# Altium schematic symbol library ICs_Control.SchLib: 37 symbols (part 2 of 6)
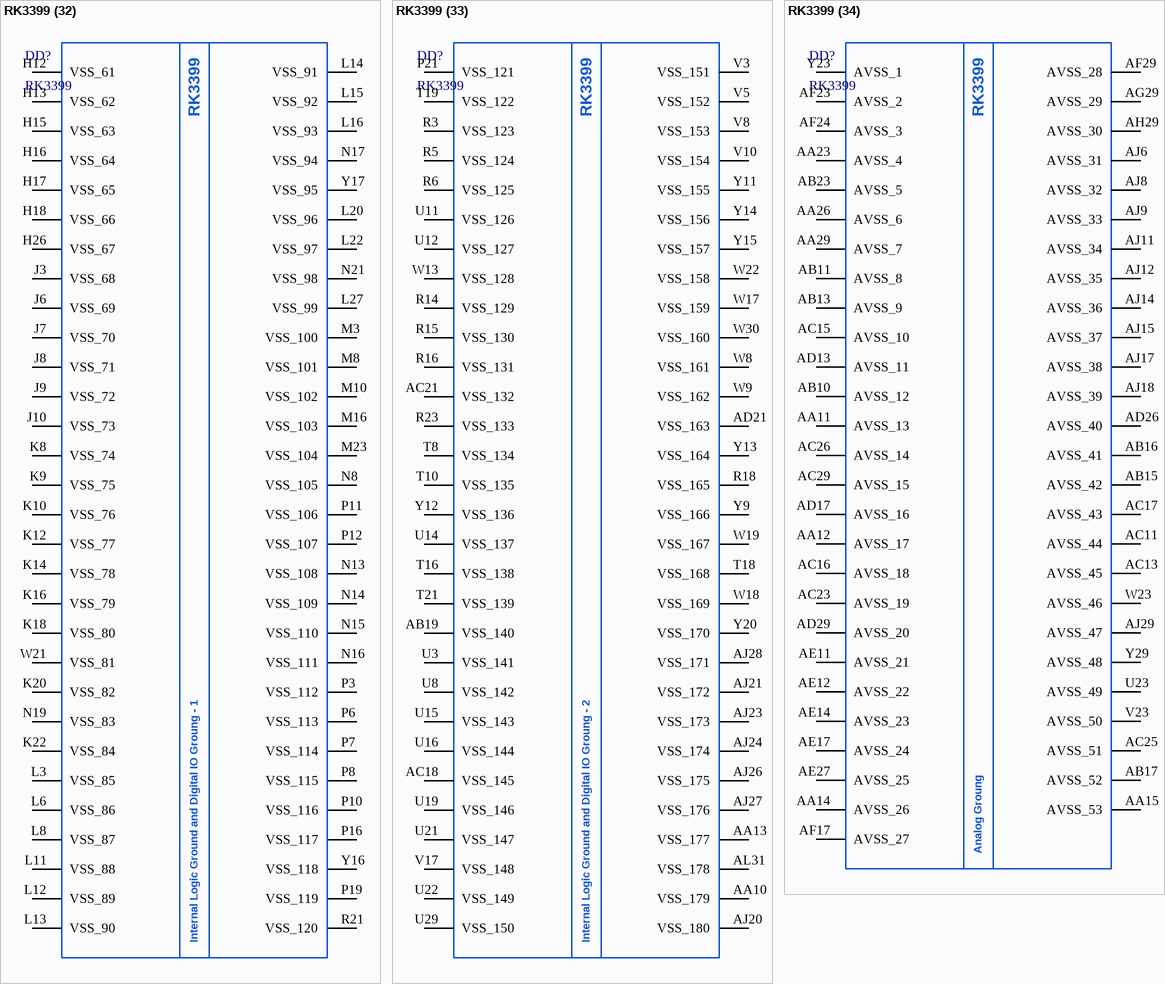
[diagram p78: symbol RK3399]

## RK3399
designator DD?
Quad Cortex A53 and Dual Cortex A72 Embedded CPU; Manufacturer: Rockchip; ItemType: IC; Package: FCBGA-828; PartNumber: RK3399; ItemSubType: CPU; Mounting: SMD
footprint FCBGA828_RK3399
part A pins: P20 LITCPU_VDD_1 (power), P22 LITCPU_VDD_4 (power), R19 LITCPU_VDD_2 (power), R20 LITCPU_VDD_3 (power), R22 LITCPU_VDD_7 (power), T20 LITCPU_VDD_6 (power), T22 LITCPU_VDD_5 (power)
part B pins: K19 BIGCPU_VDD_12 (power), K21 BIGCPU_VDD_13 (power), L18 BIGCPU_VDD_8 (power), L19 BIGCPU_VDD_1 (power), L21 BIGCPU_VDD_2 (power), L23 BIGCPU_VDD_11 (power), M18 BIGCPU_VDD_3 (power), M19 BIGCPU_VDD_4 (power), M20 BIGCPU_VDD_5 (power), M21 BIGCPU_VDD_6 (power), M22 BIGCPU_VDD_7 (power), N18 BIGCPU_VDD_COM (power), N20 BIGCPU_VDD_10 (power), N22 BIGCPU_VDD_9 (power)
part C pins: R11 GPU_VDD_8 (power), R12 GPU_VDD_9 (power), R13 GPU_VDD_13 (power), T11 GPU_VDD_10 (power), T12 GPU_VDD_11 (power), T13 GPU_VDD_12 (power), T14 GPU_VDD_14 (power), T15 GPU_VDD_COM (power), U13 GPU_VDD_7 (power), V11 GPU_VDD_15 (power), V12 GPU_VDD_16 (power), V13 GPU_VDD_6 (power), V14 GPU_VDD_5 (power), V15 GPU_VDD_4 (power), V16 GPU_VDD_17 (power), W10 GPU_VDD_20 (power), W11 GPU_VDD_1 (power), W12 GPU_VDD_2 (power), W14 GPU_VDD_3 (power), W15 GPU_VDD_19 (power), W16 GPU_VDD_18 (power)
part D pins: L17 LOGIC_VDD_10 (power), M17 LOGIC_VDD_9 (power), T17 LOGIC_VDD_11 (power), U17 LOGIC_VDD_8 (power), U18 LOGIC_VDD_7 (power), U20 LOGIC_VDD_12 (power), V18 LOGIC_VDD_5 (power), V19 LOGIC_VDD_4 (power), V20 LOGIC_VDD_3 (power), V21 LOGIC_VDD_2 (power), V22 LOGIC_VDD_1 (power), W20 LOGIC_VDD_6 (power)
part E pins: M11 CENTERLOGIC_VDD_1 (power), M12 CENTERLOGIC_VDD_2 (power), M13 CENTERLOGIC_VDD_3 (power), M14 CENTERLOGIC_VDD_4 (power), M15 CENTERLOGIC_VDD_5 (power), N11 CENTERLOGIC_VDD_6 (power), N12 CENTERLOGIC_VDD_7 (power), P13 CENTERLOGIC_VDD_8 (power), P14 CENTERLOGIC_VDD_9 (power), P15 CENTERLOGIC_VDD_10 (power)
part F pins: AA1 DDR0_DQ3 (io), AA2 DDR0_DQ2 (io), AA4 DDR0_DQS0N (io), AB1 DDR0_DQ1 (io), AB2 DDR0_DQ0 (io), AC1 DDR0_DQ14 (io), AC2 DDR0_DQ15 (io), AC4 DDR0_DQS1P (io), AC5 DDR0_DM1 (out), AD1 DDR0_DQ13 (io), AD2 DDR0_DQ11 (io), AD4 DDR0_DQS1N (io), AE1 DDR0_DQ12 (io), AE2 DDR0_DQ9 (io), AF1 DDR0_DQ10 (io), AF2 DDR0_DQ8 (io), B1 DDR0_CSN1 (out), C1 DDR0_A12 (out), C2 DDR0_CSN3 (out), C3 DDR0_BA0 (out), D1 DDR0_A10 (out), D2 DDR0_A13 (out), D3 DDR0_A14 (out), E1 DDR0_CKE0 (out), E3 DDR0_A11 (out), F1 DDR0_A1 (out), F2 DDR0_A0 (out), F3 DDR0_RASN (out), F4 DDR0_BA1 (out), F5 DDR0_CKE1 (out), G1 DDR0_A2 (out), G2 DDR0_A3 (out), G6 DDR0_WEN (out), H1 DDR0_A5 (out), H2 DDR0_A4 (out), H4 DDR0_CLK0P (out), H5 DDR0_CLK1P (out), H6 DDR0_CASN (out), H7 DDR0_A15 (out), J1 DDR0_A6 (out), J2 DDR0_A7 (out), J4 DDR0_CLK0N (out), J5 DDR0_CLK1N (out), K1 DDR0_A9 (out), K2 DDR0_A8 (out), L1 DDR0_DQ29 (io), L2 DDR0_DQ31 (io), L4 DDR0_ODT0 (out), L5 DDR0_ODT1 (out), L7 DDR0_RESETN (out), M1 DDR0_DQ27 (io), M2 DDR0_DQ30 (io), M4 DDR0_BA2 (out), M5 DDR0_CSN2 (out), M6 DDR0_CSN0 (out), N1 DDR0_DQ26 (io), N2 DDR0_DQ28 (io), P1 DDR0_DQ24 (io), P2 DDR0_DQ25 (io), P4 DDR0_DQS3P (io), P5 DDR0_DM3 (out), R1 DDR0_DQ23 (io), R2 DDR0_DQ22 (io), R4 DDR0_DQS3N (io), R7 DDR0_PZQ (io), T1 DDR0_DQ20 (io), T2 DDR0_DQ21 (io), U1 DDR0_DQ18 (io), U2 DDR0_DQ19 (io), U4 DDR0_DQS2P (io), U5 DDR0_DM2 (out), U6 DDR0_ATB0 (out), U7 DDR0_ATB1 (out), V1 DDR0_DQ16 (io), V2 DDR0_DQ17 (io), V4 DDR0_DQS2N (io), V6 DDR0_PLL_TESTOUT_P (out), V7 DDR0_PLL_TESTOUT_N (out), W1 DDR0_DQ6 (io), W2 DDR0_DQ7 (io), Y1 DDR0_DQ5 (io), Y2 DDR0_DQ4 (io), Y4 DDR0_DQS0P (io), Y5 DDR0_DM0 (out)
part G pins: L9 DDR0_VDD_1 (power), L10 DDR0_VDD_2 (power), M7 DDR0_CLK_VDD (power), M9 DDR0_VDD_3 (power), N9 DDR0_VDD_4 (power), N10 DDR0_VDD_5 (power), P9 DDR0_VDD_6 (power), R8 DDR0PLL_AVDD_0V9 (power), R9 DDR0_VDD_7 (power), R10 DDR0_VDD_8 (power), T9 DDR0_VDD_9 (power), U9 DDR0_VDD_10 (power), U10 DDR0_VDD_11 (power), V9 DDR0_VDD_12 (power)
part H pins: A2 DDR1_CSN1 (out), A3 DDR1_A12 (out), A4 DDR1_A10 (out), A5 DDR1_CKE0 (out), A6 DDR1_A9 (out), A7 DDR1_A7 (out), A8 DDR1_A5 (out), A9 DDR1_A3 (out), A10 DDR1_A1 (out), A11 DDR1_DQ10 (io), A12 DDR1_DQ12 (io), A13 DDR1_DQ13 (io), A14 DDR1_DQ14 (io), A15 DDR1_DQ1 (io), A16 DDR1_DQ3 (io), A17 DDR1_DQ5 (io), A18 DDR1_DQ6 (io), A19 DDR1_DQ16 (io), A20 DDR1_DQ18 (io), A21 DDR1_DQ20 (io), A22 DDR1_DQ23 (io), A23 DDR1_DQ24 (io), A24 DDR1_DQ26 (io), A25 DDR1_DQ27 (io), A26 DDR1_DQ29 (io), B2 DDR1_BA0 (out), B3 DDR1_CSN3 (out), B4 DDR1_A13 (out), B6 DDR1_A8 (out), B7 DDR1_A6 (out), B8 DDR1_A4 (out), B9 DDR1_A2 (out), B10 DDR1_A0 (out), B11 DDR1_DQ8 (io), B12 DDR1_DQ9 (io), B13 DDR1_DQ11 (io), B14 DDR1_DQ15 (io), B15 DDR1_DQ0 (io), B16 DDR1_DQ2 (io), B17 DDR1_DQ4 (io), B18 DDR1_DQ7 (io), B19 DDR1_DQ17 (io), B20 DDR1_DQ19 (io), B21 DDR1_DQ21 (io), B22 DDR1_DQ22 (io), B23 DDR1_DQ25 (io), B24 DDR1_DQ28 (io), B25 DDR1_DQ30 (io), B26 DDR1_DQ31 (io), C4 DDR1_A14 (out), C5 DDR1_A11 (out), C6 DDR1_RASN (out), D6 DDR1_BA1 (out), D8 DDR1_CLK0N (out), D9 DDR1_CLK0P (out), D11 DDR1_ODT0 (out), D12 DDR1_BA2 (out), D14 DDR1_DQS1N (io), D15 DDR1_DQS1P (io), D17 DDR1_DQS0N (io), D18 DDR1_DQS0P (io), D20 DDR1_DQS2N (io), D21 DDR1_DQS2P (io), D23 DDR1_DQS3N (io), D24 DDR1_DQS3P (io), E6 DDR1_CKE1 (out), E8 DDR1_CLK1N (out), E9 DDR1_CLK1P (out), E11 DDR1_ODT1 (out), E14 DDR1_DM1 (out), E17 DDR1_DM0 (out), E20 DDR1_DM2 (out), E23 DDR1_DM3 (out), F7 DDR1_WEN (out), F9 DDR1_CASN (out), F11 DDR1_CSN2 (out), F12 DDR1_CSN0 (out), F14 DDR1_PLL_TESTOUT_P (out), F17 DDR1_ATB0 (out), G8 DDR1_A15 (out), G11 DDR1_RESETN (out), G14 DDR1_PLL_TESTOUT_N (out), G15 DDR1_PZQ (io), G17 DDR1_ATB1 (out)
part I pins: G12 DDR1_CLK_VDD (power), H14 DDR1PLL_AVDD_0V9 (power), J11 DDR1_VDD_1 (power), J12 DDR1_VDD_2 (power), J13 DDR1_VDD_3 (power), J14 DDR1_VDD_4 (power), J15 DDR1_VDD_5 (power), J16 DDR1_VDD_6 (power), J17 DDR1_VDD_7 (power), J18 DDR1_VDD_8 (power), K11 DDR1_VDD_9 (power), K13 DDR1_VDD_10 (power), K15 DDR1_VDD_11 (power), K17 DDR1_VDD_12 (power)
part J pins: AD23 EFUSE, P17 PLL_AVSS (power), P18 PLL_AVDD_1V8 (power), R17 PLL_AVDD_0V9 (power), T30 NPOR (in), Y30 XOUT_OSC (out), Y31 XIN_OSC (in)
part K pins: J25 EMMC_D3 (io), J26 EMMC_D4 (io), J27 EMMC_D5 (io), J28 EMMC_D0 (io), J29 EMMC_D1 (io), J30 EMMC_D2 (io), J31 EMMC_CMD (io), K24 EMMC_VDD_1V8 (power), K30 EMMC_D7 (io), K31 EMMC_STRB (io), L24 EMMC_COREDLL_0V9 (power), L28 EMMC_CLK (out), L29 EMMC_CALIO (io), L30 EMMC_TP (out), L31 EMMC_D6 (io)
part L pins: AA19 NC (hiz), AA20 NC (hiz), AA22 NC (hiz), AB20 NC (hiz), AB22 NC (hiz), AC12 NC (hiz), AC14 NC (hiz), AD11 NC (hiz), AD12 NC (hiz), AD14 NC (hiz), AD15 NC (hiz), AD24 USIC_AVDD_1V2 (power), AD25 USIC_AVDD_0V9 (power), AJ30 USIC_STROBE (io), AJ31 USIC_DATA (io)
part M pins: AA30 USB1_DP (io), AA31 USB1_DN (io), AB30 USB0_DP (io), AB31 USB0_DN (io), AC30 USB1_RBIAS (in), AC31 USB0_RBIAS (in), AE26 TYPEC1_ID (in), AG23 TYPEC0_DP (io), AG24 TYPEC1_DP (io), AH23 TYPEC0_DN (io), AH24 TYPEC1_DN (io), AK30 TYPEC0_U2VBUSDET (io), AK31 TYPEC1_U2VBUSDET (io), AL30 TYPEC0_ID (in), U24 USB_AVDD_1V8 (power), V24 USB_AVDD_0V9 (power), Y25 USB_AVDD_3V3 (power)
part N pins: AA18 TYPEC0_AVDD_1V8 (power), AB18 TYPEC0_AVDD_3V3 (power), AD18 TYPEC0_RCLKM (out), AD19 TYPEC0_U3VBUSDET (in), AE18 TYPEC0_RCLKP (out), AG17 TYPEC0_AUXM_PU_PD (io), AG18 TYPEC0_REXT (in), AG20 TYPEC0_REXT_CC (in), AH17 TYPEC0_AUXP_PD_PU (io), AH18 TYPEC0_CC1 (io), AH20 TYPEC0_CC2 (io), AK20 TYPEC0_AUXP (io), AK21 TYPEC0_RX1P (in), AK22 TYPEC0_TX1M (out), AK23 TYPEC0_RX2P (in), AK24 TYPEC0_TX2M (out), AL20 TYPEC0_AUXM (io), AL21 TYPEC0_RX1M (in), AL22 TYPEC0_TX1P (out), AL23 TYPEC0_RX2M (in), AL24 TYPEC0_TX2P (out), Y18 TYPEC0_AVDD_0V9_2 (power), Y19 TYPEC0_AVDD_0V9_1 (power)
part O pins: AA21 TYPEC1_AVDD_1V8 (power), AB21 TYPEC1_AVDD_3V3 (power), AC19 TYPEC1_U3VBUSDET (in), AD20 TYPEC1_RCLKM (out), AE20 TYPEC1_RCLKP (out), AE21 TYPEC1_REXT (in), AE24 TYPEC1_AUXP_PD_PU (io), AF21 TYPEC1_CC2 (io), AF25 TYPEC1_AUXM_PU_PD (io), AG21 TYPEC1_REXT_CC (in), AH21 TYPEC1_CC1 (io), AK25 TYPEC1_RX1P (in), AK26 TYPEC1_TX1M (out), AK27 TYPEC1_RX2P (in), AK28 TYPEC1_TX2M (out), AK29 TYPEC1_AUXP (io), AL25 TYPEC1_RX1M (in), AL26 TYPEC1_TX1P (out), AL27 TYPEC1_RX2M (in), AL28 TYPEC1_TX2P (out), AL29 TYPEC1_AUXM (io), Y21 TYPEC1_AVDD_0V9_1 (power), Y22 TYPEC1_AVDD_0V9_2 (power)
part P pins: AA16 HDMI_AVDD_0V9_1 (power), AA17 HDMI_AVDD_0V9_2 (power), AD16 HDMI_AVDD_1V8 (power), AE15 HDMI_HPD, AF15 HDMI_REXT, AK16 HDMI_TCP (out), AK17 HDMI_TX0P (out), AK18 HDMI_TX1P (out), AK19 HDMI_TX2P (out), AL16 HDMI_TCN (out), AL17 HDMI_TX0N (out), AL18 HDMI_TX1N (out), AL19 HDMI_TX2N (out)
part Q pins: A28 EDP_AUXN (io), A29 EDP_TX0N (out), A30 EDP_TX1N (out), B28 EDP_AUXP (io), B29 EDP_TX0P (out), B30 EDP_TX1P (out), B31 EDP_AVSS_1 (power), C28 EDP_AVSS_2 (power), C29 EDP_AVSS_3 (power), C30 EDP_TX2P (out), C31 EDP_TX2N (out), D29 EDP_AVSS_4 (power), D30 EDP_TX3P (out), D31 EDP_TX3N (out), G20 EDP_DC_TP (io), G21 EDP_REXT, H19 EDP_AVSS_5 (power), H20 EDP_AVDD_0V9 (power), H21 EDP_CLK24M_IN (in), J19 EDP_AVDD_1V8_1 (power), J20 EDP_AVDD_1V8_2 (power), J21 EDP_AVSS_6 (power)
part R pins: AA27 PCIE_TX2_P (out), AA28 PCIE_TX2_N (out), AC27 PCIE_RX2_P (in), AC28 PCIE_RX2_N (in), AD27 PCIE_TX3_P (out), AD28 PCIE_TX3_N (out), AD30 PCIE_RCLK_100M_N (out), AD31 PCIE_RCLK_100M_P (out), AE30 PCIE_TX0_P (out), AE31 PCIE_TX0_N (out), AF27 PCIE_RX3_P (in), AF28 PCIE_RX3_N (in), AF30 PCIE_RX0_P (in), AF31 PCIE_RX0_N (in), AG30 PCIE_TX1_P (out), AG31 PCIE_TX1_N (out), AH30 PCIE_RX1_P (in), AH31 PCIE_RX1_N (in), W24 PCIE_AVDD_0V9 (power), Y24 PCIE_AVDD_1V8 (power)
part S pins: AB12 MIPI_TX0_AVDD_1V8 (power), AF12 MIPI_TX0_REXT, AG9 MIPI_TX0_D3P (out), AG11 MIPI_TX0_D2P (out), AG12 MIPI_TX0_CLKP (out), AG14 MIPI_TX0_D1P (out), AG15 MIPI_TX0_D0P (out), AH9 MIPI_TX0_D3N (out), AH11 MIPI_TX0_D2N (out), AH12 MIPI_TX0_CLKN (out), AH14 MIPI_TX0_D1N (out), AH15 MIPI_TX0_D0N (out)
part T pins: AC10 MIPI_TX1/RX1_AVDD_1V8 (power), AF11 MIPI_TX1/RX1_REXT, AK6 MIPI_TX1/RX1_D0P (io), AK7 MIPI_TX1/RX1_D1P (io), AK8 MIPI_TX1/RX1_CLKP (io), AK9 MIPI_TX1/RX1_D2P (io), AK10 MIPI_TX1/RX1_D3P (io), AL6 MIPI_TX1/RX1_D0N (io), AL7 MIPI_TX1/RX1_D1N (io), AL8 MIPI_TX1/RX1_CLKN (io), AL9 MIPI_TX1/RX1_D2N (io), AL10 MIPI_TX1/RX1_D3N (io)
part U pins: AB14 MIPI_RX0_AVDD_1V8 (power), AF14 MIPI_RX0_REXT, AK11 MIPI_RX0_D3P (in), AK12 MIPI_RX0_D2P (in), AK13 MIPI_RX0_CLKP (in), AK14 MIPI_RX0_D1P (in), AK15 MIPI_RX0_D0P (in), AL11 MIPI_RX0_D3N (in), AL12 MIPI_RX0_D2N (in), AL13 MIPI_RX0_CLKN (in), AL14 MIPI_RX0_D1N (in), AL15 MIPI_RX0_D0N (in)
part V pins: AC24 ADC_AVDD (power), AG25 ADC_IN2 (in), AG26 ADC_IN0 (in), AG28 ADC_IN3 (in), AH26 ADC_IN1 (in), AH27 ADC_IN4 (in)
part W pins: T23 SDMMC0_VDD (power), U26 SDMMC0_VDDPST (out), U27 GPIO4_B3/SDMMC0_D3/APJTAG_TMS (io), V25 GPIO4_B5/SDMMC0_CMD/MCUJTAG_TMS (io), V29 GPIO4_B4/SDMMC0_CLKOUT/MUCJTAG_TCK (io), Y26 GPIO4_B1/SDMMC0_D1/UART2A_TX (io), Y27 GPIO4_B0/SDMMC0_D0/UART2A_RX (io), Y28 GPIO4_B2/SDMMC0_D2/APJTAG_TCK (io)
part X pins: AA25 GPIO0_A4/SDIO0_INTN (io), N24 GPIO0_A2/WIFI_26MHZ (io), P24 GPIO0_B5/TCPD_VBUS_FDIS/TCPD_VBUS_SOURCE3 (io), P25 GPIO0_A6/PWM3A_IR (io), R24 PMUIO1_VDD_1V8 (power), R29 GPIO0_A1/DDRIO_PWROFF/TCPD_CCDB_EN (io), T24 PMU_VDD_0V9 (power), U25 PMU_VDD_1V8 (power), U28 GPIO0_B0/SDMMC0_WRPT/TEST_CLKOUT2 (io), U30 GPIO0_B3 (io), U31 GPIO0_A0/TEST_CLKOUT0/CLK32K_IN (io), V26 GPIO0_B4/TCPD_VBUS_BDIS (io), V27 GPIO0_A5/EMMC_PWRON (io), V28 GPIO0_A7/SDMMC0_DET (io), V30 GPIO0_B1/PMUIO2_VOLSEL (io), V31 GPIO0_A3/SDIO0_WRPT (io), W31 GPIO0_B2 (io)
part Y pins: AA24 DFTJTAG_TMS (io), AB24 DFTJTAG_TRSTN (io), L25 GPIO1_C6/TCPD_VBUS_SOURCE0 (io), L26 GPIO1_D0/TCPD_VBUS_SOURCE2 (io), M24 GPIO1_B5 (io), M25 GPIO1_B6/PWM3B_IR (io), M26 GPIO1_B7/SPI3_RXD/I2C0_SDA (io), M27 GPIO1_C1/SPI3_CLK (io), M28 GPIO1_C3/PWM2 (io), M29 GPIO1_C4/I2C8_SDA (io), M30 GPIO1_C5/I2C8_SCL (io), M31 GPIO1_C7/TCPD_VBUS_SOURCE1 (io), N23 PMUIO2_VDDPST (power), N30 GPIO1_C0/SPI3_TXD/I2C0_SCL (io), N31 GPIO1_C2/SPI3_CSN0 (io), P23 PMUIO2_VDD (power), P26 GPIO1_A6/TSADC_INT (io), P27 GPIO1_A7/SPI1_RXD/UART4_RX (io), P28 GPIO1_B1/SPI1_CLK/PMCU_JTAG_TCK (io), P29 GPIO1_B2/SPI1_CSN0/PMCU_JTAG_TMS (io), P30 GPIO1_B4/I2C4_SCL (io), P31 GPIO1_B3/I2C4_SDA (io), R25 GPIO1_A0/ISP0_EN/ISP1_EN/TCPD_VBUS_SINK_EN (io), R26 GPIO1_A2/ISP0_TRIGIN/ISP1_TRIGIN/TCPD_CC1_EN (io), R27 GPIO1_A3/ISP0_TRIGOUT/ISP1_TRIGOUT (io), R28 GPIO1_A4/ISP0_PRELIGHT_TRIG/ISP1_PRELIGHT_TRIG (io), R30 GPIO1_A5/AP_PWROFF (io), R31 GPIO1_B0/SPI1_TXD/UART4_TX (io), T31 GPIO1_A1/ISP0_TRIG/ISP1_TRIG/TCPD_CC0_EN (io)
part Z pins: B27 GPIO3_B7/MAC_CRS/UART3_TX/CIF_CLKOUTB (io), C27 GPIO3_B1/MAC_RXDV (io), D26 GPIO3_A4/MAC_TXD0/SPI0_RXD (io), D27 GPIO3_C0/MAC_COL/UART3_CTSN/SPDIF_TX (io), E25 GPIO3_A3/MAC_RXD3/SPI4_CSN0 (io), E26 GPIO3_A6/MAC_RXD0/SPI0_CLK (io), E28 GPIO3_C1/MAC_TXCLK/UART3_RTSN (io), E29 GPIO3_B0/MAC_MDC/SPI0_CSN1 (io), E30 GPIO3_A2/MAC_RXD2/SPI4_CLK (io), F23 GPIO3_B2/MAC_RXER/I2C5_SDA (io), F24 GPIO3_A0/MAC_TXD2/SPI4_RXD (io), F25 GPIO3_B6/MAC_RXCLK/UART3_RX (io), F27 GPIO3_A7/MAC_RXD1/SPI0_CSN0 (io), G23 GPIO3_A5/MAC_TXD1/SPI0_TXD (io), G24 GPIO3_B3/MAC_CLK/I2C5_SCL (io), G26 GPIO3_B5/MAC_MDIO/UART1_TX (io), H22 GPIO3_B4/MAC_TXEN/UART1_RX (io), H23 GPIO3_A1/MAC_TXD3/SPI4_TXD (io), J22 APIO1_VDDPST (power), J23 APIO1_VDD (power)
part 27 pins: F28 GPIO2_A3/VOP_D3/CIF_D3 (io), F29 GPIO2_A5/VOP_D5/CIF_D5 (io), F30 GPIO2_B1/SPI2_RXD/CIF_HREF/I2C6_SDA (io), F31 GPIO2_B4/SPI2_CSN0 (io), G30 GPIO2_A7/VOP_D7/CIF_D7/I2C7_SDA (io), G31 GPIO2_A0/VOP_D0/CIF_D0/I2C2_SDA (io), H24 GPIO2_B2/SPI2_TXD/CIF_CLKIN/I2C6_SCL (io), H25 GPIO2_A1/VOP_D1/CIF_D1/I2C2_SCL (io), H27 GPIO2_A6/VOP_D6/CIF_D6 (io), H28 GPIO2_B0/VOP_CLK/CIF_VSYNC/I2C7_SCL (io), H29 GPIO2_A4/VOP_D4/CIF_D4 (io), H30 GPIO2_A2/VOP_D2/CIF_D2 (io), H31 GPIO2_B3/SPI2_CLK/VOP_DEN/CIF_CLKOUTA (io), J24 APIO2_VDDPST (power), K23 APIO2_VDD (power)
part 28 pins: AB8 APIO3_VDD_1V8 (power), AD8 GPIO2_C4/SDIO0_D0/SPI5_RXD (io), AD9 GPIO2_D3/SDIO0_PWREN (io), AE8 GPIO2_C7/SDIO0_D3/SPI5_CSN0 (io), AE9 GPIO2_C0/UART0_RX (io), AF7 GPIO2_D1/SDIO0_CLKOUT/TEST_CLKOUT1 (io), AF8 GPIO2_D4/SDIO0_BKPWR (io), AG7 GPIO2_C6/SDIO0_D2/SPI5_CLK (io), AG8 GPIO2_C2/UART0_CTSN (io), AH6 GPIO2_D0/SDIO0_CMD (io), AH8 GPIO2_C1/UART0_TX (io), AK5 GPIO2_C5/SDIO0_D1/SPI5_TXD (io), AL4 GPIO2_D2/SDIO0_DETN/PCIE_CLKREQN (io), AL5 GPIO2_C3/UART0_RTSN (io)
part 29 pins: AC8 APIO4_VDDPST (power), AC9 APIO4_VDD (power), AD7 GPIO4_C7/HDMI_CECINOUT/EDP_HOTPLUG (io), AE6 GPIO4_D0/PCIE_CLKREQNB (io), AF5 GPIO4_C2/PWM0/VOP0_PWM/VOP1_PWM (io), AG4 GPIO4_D6 (io), AG6 GPIO4_C0/I2C3_SDA/UART2B_RX (io), AH3 GPIO4_D2 (io), AH5 GPIO4_D4 (io), AJ3 GPIO4_D5 (io), AJ4 GPIO4_C4/UART2C_TX (io), AK1 GPIO4_C5/SPDIF_TX (io), AK2 GPIO4_C3/UART2C_RX (io), AK3 GPIO4_D3 (io), AK4 GPIO4_D1/DP_HOTPLUG (io), AL2 GPIO4_C1/I2C3_SCL/UART2B_TX (io), AL3 GPIO4_C6/PWM1 (io)
part 30 pins: AA6 GPIO3_D5/I2S0_SDI2SDO2 (io), AA7 GPIO4_A4/I2S1_LRCK_RX (io), AA8 APIO5_VDDPST (power), AC6 GPIO4_A7/I2S1_SDO0 (io), AC7 GPIO4_A0/I2S_CLK (io), AD6 GPIO4_A6/I2S1_SDI0 (io), AE5 GPIO3_D4/I2S0_SDI1SDO3 (io), AF3 GPIO4_A3/I2S1_SCLK (io), AF4 GPIO3_D1/I2S0_LRCK_RX (io), AG1 GPIO4_A1/I2C1_SDA (io), AG3 GPIO3_D0/I2S0_SCLK (io), AH1 GPIO3_D7/I2S0_SDO0 (io), AH2 GPIO3_D6/I2S0_SDI3SDO1 (io), AJ1 GPIO4_A5/I2S1_LRCK_TX (io), AJ2 GPIO3_D2/I2S0_LRCK_TX (io), Y6 GPIO4_A2/I2C1_SCL (io), Y7 GPIO3_D3/I2S0_SDI0 (io), Y8 APIO5_VDD (power)
part 31 pins: A1 VSS_1, A27 VSS_2, A31 VSS_3, AA3 VSS_4, AA5 VSS_5, AA9 VSS_6, AB9 VSS_9, AC3 VSS_16, AC20 VSS_13, AC22 VSS_12, AD3 VSS_17, AD5 VSS_18, AD10 VSS_19, AD22 VSS_11, AE23 VSS_14, AF9 VSS_20, AF18 VSS_7, AF20 VSS_10, AG2 VSS_21, AJ5 VSS_22, AL1 VSS_23, B5 VSS_24, C8 VSS_25, C9 VSS_26, C11 VSS_27, C12 VSS_28, C14 VSS_29, C15 VSS_30, C17 VSS_31, C18 VSS_32, C20 VSS_33, C21 VSS_34, C23 VSS_35, C24 VSS_36, C26 VSS_37, D5 VSS_38, E2 VSS_39, E4 VSS_40, E7 VSS_41, E12 VSS_42, E15 VSS_43, E18 VSS_44, E21 VSS_45, E24 VSS_46, E31 VSS_47, F8 VSS_48, F15 VSS_49, F18 VSS_50, F20 VSS_51, F21 VSS_52, G5 VSS_53, G9 VSS_54, G18 VSS_55, G27 VSS_56, H3 VSS_57, H9 VSS_58, H10 VSS_59, H11 VSS_60, Y3 VSS_8, Y10 VSS_15
part 32 pins: H12 VSS_61, H13 VSS_62, H15 VSS_63, H16 VSS_64, H17 VSS_65, H18 VSS_66, H26 VSS_67, J3 VSS_68, J6 VSS_69, J7 VSS_70, J8 VSS_71, J9 VSS_72, J10 VSS_73, K8 VSS_74, K9 VSS_75, K10 VSS_76, K12 VSS_77, K14 VSS_78, K16 VSS_79, K18 VSS_80, K20 VSS_82, K22 VSS_84, L3 VSS_85, L6 VSS_86, L8 VSS_87, L11 VSS_88, L12 VSS_89, L13 VSS_90, L14 VSS_91, L15 VSS_92, L16 VSS_93, L20 VSS_96, L22 VSS_97, L27 VSS_99, M3 VSS_100, M8 VSS_101, M10 VSS_102, M16 VSS_103, M23 VSS_104, N8 VSS_105, N13 VSS_108, N14 VSS_109, N15 VSS_110, N16 VSS_111, N17 VSS_94, N19 VSS_83, N21 VSS_98, P3 VSS_112, P6 VSS_113, P7 VSS_114, P8 VSS_115, P10 VSS_116, P11 VSS_106, P12 VSS_107, P16 VSS_117, P19 VSS_119, R21 VSS_120, W21 VSS_81, Y16 VSS_118, Y17 VSS_95
part 33 pins: AA10 VSS_179, AA13 VSS_177, AB19 VSS_140, AC18 VSS_145, AC21 VSS_132, AD21 VSS_163, AJ20 VSS_180, AJ21 VSS_172, AJ23 VSS_173, AJ24 VSS_174, AJ26 VSS_175, AJ27 VSS_176, AJ28 VSS_171, AL31 VSS_178, P21 VSS_121, R3 VSS_123, R5 VSS_124, R6 VSS_125, R14 VSS_129, R15 VSS_130, R16 VSS_131, R18 VSS_165, R23 VSS_133, T8 VSS_134, T10 VSS_135, T16 VSS_138, T18 VSS_168, T19 VSS_122, T21 VSS_139, U3 VSS_141, U8 VSS_142, U11 VSS_126, U12 VSS_127, U14 VSS_137, U15 VSS_143, U16 VSS_144, U19 VSS_146, U21 VSS_147, U22 VSS_149, U29 VSS_150, V3 VSS_151, V5 VSS_152, V8 VSS_153, V10 VSS_154, V17 VSS_148, W8 VSS_161, W9 VSS_162, W13 VSS_128, W17 VSS_159, W18 VSS_169, W19 VSS_167, W22 VSS_158, W30 VSS_160, Y9 VSS_166, Y11 VSS_155, Y12 VSS_136, Y13 VSS_164, Y14 VSS_156, Y15 VSS_157, Y20 VSS_170
part 34 pins: AA11 AVSS_13, AA12 AVSS_17, AA14 AVSS_26, AA15 AVSS_53, AA23 AVSS_4, AA26 AVSS_6, AA29 AVSS_7, AB10 AVSS_12, AB11 AVSS_8, AB13 AVSS_9, AB15 AVSS_42, AB16 AVSS_41, AB17 AVSS_52, AB23 AVSS_5, AC11 AVSS_44, AC13 AVSS_45, AC15 AVSS_10, AC16 AVSS_18, AC17 AVSS_43, AC23 AVSS_19, AC25 AVSS_51, AC26 AVSS_14, AC29 AVSS_15, AD13 AVSS_11, AD17 AVSS_16, AD26 AVSS_40, AD29 AVSS_20, AE11 AVSS_21, AE12 AVSS_22, AE14 AVSS_23, AE17 AVSS_24, AE27 AVSS_25, AF17 AVSS_27, AF23 AVSS_2, AF24 AVSS_3, AF29 AVSS_28, AG29 AVSS_29, AH29 AVSS_30, AJ6 AVSS_31, AJ8 AVSS_32, AJ9 AVSS_33, AJ11 AVSS_34, AJ12 AVSS_35, AJ14 AVSS_36, AJ15 AVSS_37, AJ17 AVSS_38, AJ18 AVSS_39, AJ29 AVSS_47, U23 AVSS_49, V23 AVSS_50, W23 AVSS_46, Y23 AVSS_1, Y29 AVSS_48
part A text: Internal LITTLE CPU A53 Power
part B text: Internal BIG CPU A72 Power
part C text: Internal GPU Power
part D text: Internal Logic Power
part E text: Internal Center Logic Power
part F text: DDRC0
part G text: DDRC0 Power
part H text: DDRC1
part I text: DDRC1 Power
part J text: 24MHz; PLL
part K text: eMMC
part L text: Misc
part M text: USB 2.0 PHY0; USB 2.0 PHY1
part N text: USB 3.0 PHY0
part O text: USB 3.0 PHY1
part P text: HDMI
part Q text: eDP
part R text: PCIe
part S text: MIPI DSI
part T text: MIPI CSI/DSI
part U text: MIPI CSI
part V text: SAR-ADC
part W text: SDMMC
part X text: 0B; 0A; GPIO
part Y text: 1D; 1C; 1B; 1A; GPIO
part Z text: 3C; 3B; 3A; GPIO
part 27 text: 2B; 2A; GPIO
part 28 text: 2D; 2C; GPIO
part 29 text: 4D; 4C; GPIO
part 30 text: 4A; 3D; GPIO
part 31 text: Internal Logic Ground and Digital IO Groung - 0
part 32 text: Internal Logic Ground and Digital IO Groung - 1
part 33 text: Internal Logic Ground and Digital IO Groung - 2
part 34 text: Analog Groung

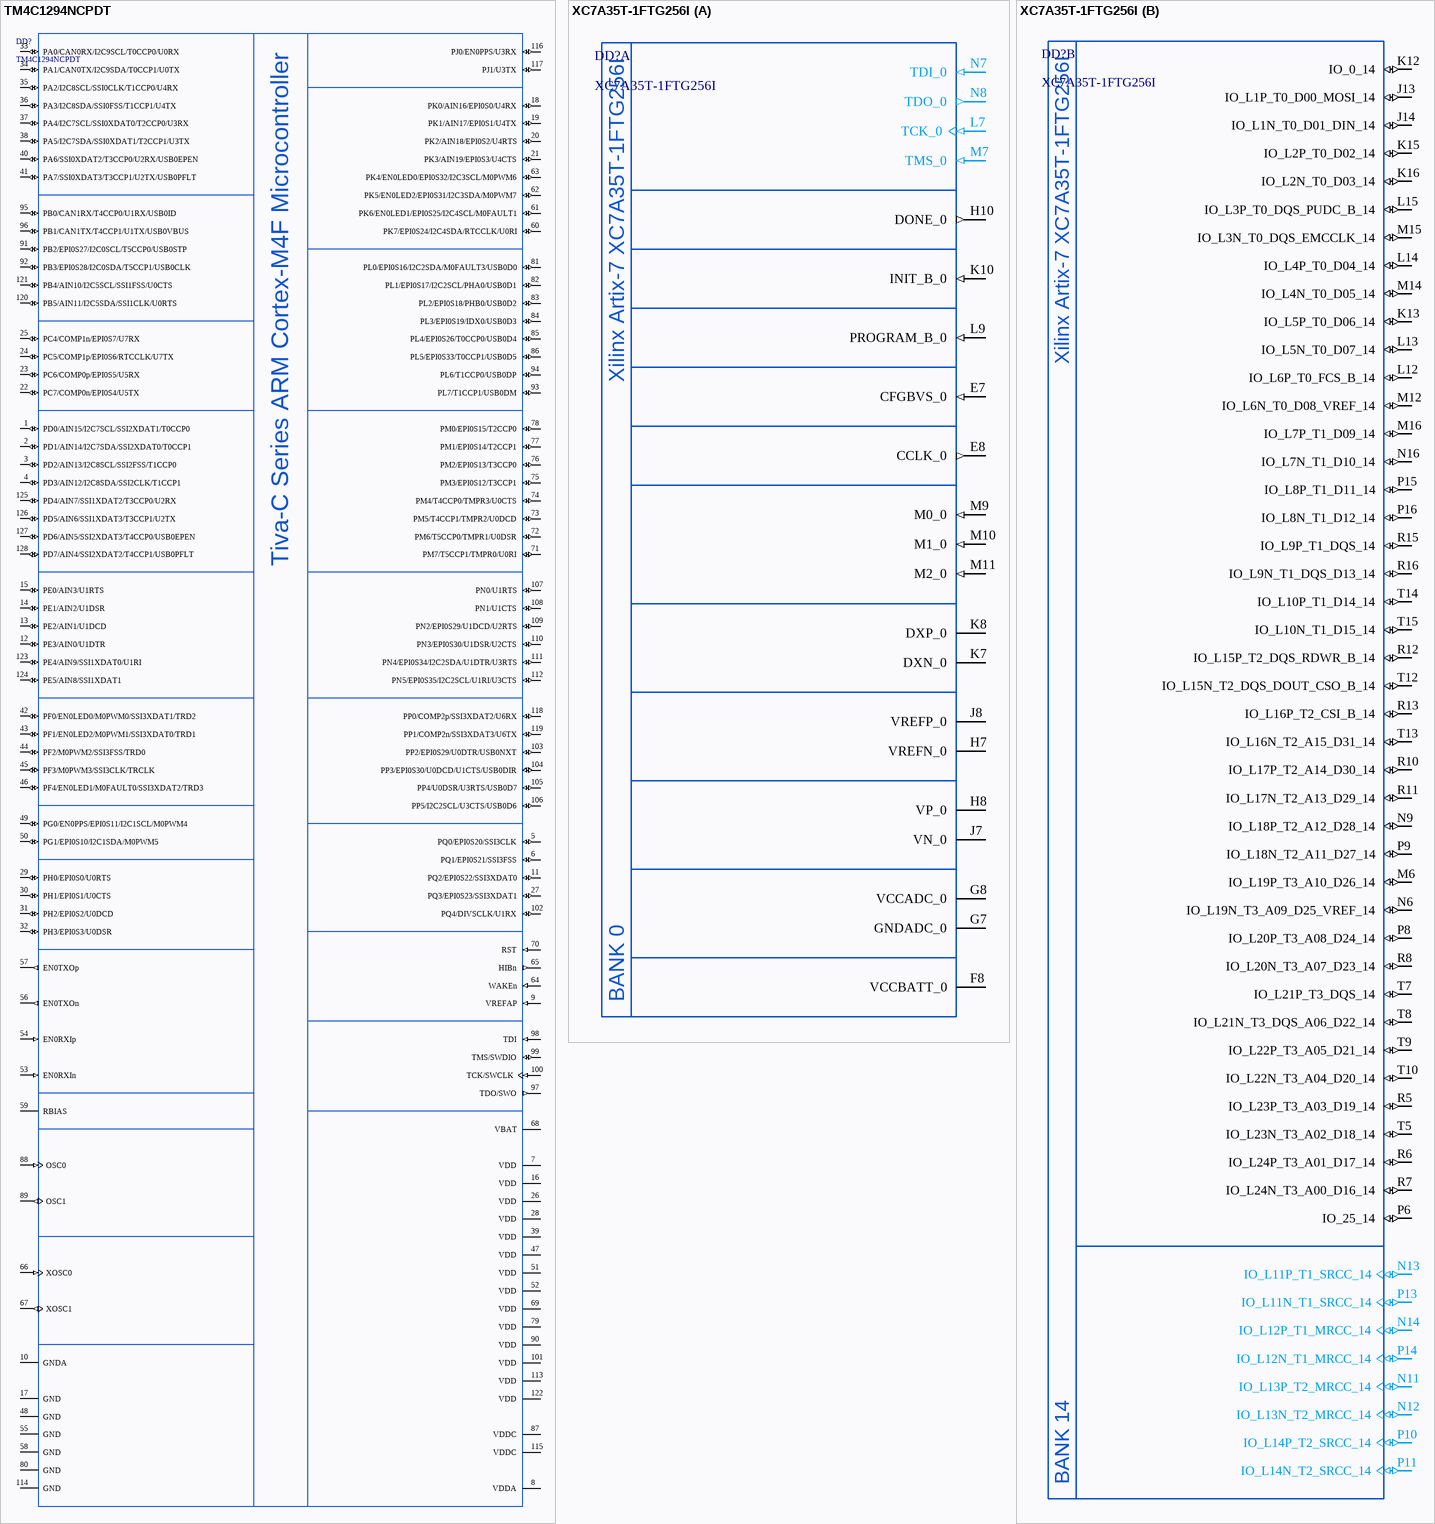
[diagram p18: symbols TM4C1294NCPDT to XC7A35T-1FTG256I]

## TM4C1294NCPDT
designator DD?
ARM Cortex-M4F MCU 120MHz clock rate with 1MB Flash; Manufacturer: Texas Instruments; ItemType: IC; Package: TQFP128; Marking: TM4C129; PartNumber: TM4C1294NCPDT; ItemSubType: MCU; Mounting: SMD
footprint LQFP128_TIVA_C (S-PQFP-G128, 128-Leads, Body 14.00x14.00mm, Pitch 0.40mm)
pins: 1 PD0/AIN15/I2C7SCL/SSI2XDAT1/T0CCP0 (io), 2 PD1/AIN14/I2C7SDA/SSI2XDAT0/T0CCP1 (io), 3 PD2/AIN13/I2C8SCL/SSI2FSS/T1CCP0 (io), 4 PD3/AIN12/I2C8SDA/SSI2CLK/T1CCP1 (io), 5 PQ0/EPI0S20/SSI3CLK (io), 6 PQ1/EPI0S21/SSI3FSS (io), 7 VDD (power), 8 VDDA (power), 9 VREFAP (in), 10 GNDA, 11 PQ2/EPI0S22/SSI3XDAT0 (io), 12 PE3/AIN0/U1DTR (io), 13 PE2/AIN1/U1DCD (io), 14 PE1/AIN2/U1DSR (io), 15 PE0/AIN3/U1RTS (io), 16 VDD (power), 17 GND, 18 PK0/AIN16/EPI0S0/U4RX (io), 19 PK1/AIN17/EPI0S1/U4TX (io), 20 PK2/AIN18/EPI0S2/U4RTS (io), 21 PK3/AIN19/EPI0S3/U4CTS (io), 22 PC7/COMP0n/EPI0S4/U5TX (io), 23 PC6/COMP0p/EPI0S5/U5RX (io), 24 PC5/COMP1p/EPI0S6/RTCCLK/U7TX (io), 25 PC4/COMP1n/EPI0S7/U7RX (io), 26 VDD (power), 27 PQ3/EPI0S23/SSI3XDAT1 (io), 28 VDD (power), 29 PH0/EPI0S0/U0RTS (io), 30 PH1/EPI0S1/U0CTS (io), 31 PH2/EPI0S2/U0DCD (io), 32 PH3/EPI0S3/U0DSR (io), 33 PA0/CAN0RX/I2C9SCL/T0CCP0/U0RX (io), 34 PA1/CAN0TX/I2C9SDA/T0CCP1/U0TX (io), 35 PA2/I2C8SCL/SSI0CLK/T1CCP0/U4RX (io), 36 PA3/I2C8SDA/SSI0FSS/T1CCP1/U4TX (io), 37 PA4/I2C7SCL/SSI0XDAT0/T2CCP0/U3RX (io), 38 PA5/I2C7SDA/SSI0XDAT1/T2CCP1/U3TX (io), 39 VDD (power), 40 PA6/SSI0XDAT2/T3CCP0/U2RX/USB0EPEN (io), 41 PA7/SSI0XDAT3/T3CCP1/U2TX/USB0PFLT (io), 42 PF0/EN0LED0/M0PWM0/SSI3XDAT1/TRD2 (io), 43 PF1/EN0LED2/M0PWM1/SSI3XDAT0/TRD1 (io), 44 PF2/M0PWM2/SSI3FSS/TRD0 (io), 45 PF3/M0PWM3/SSI3CLK/TRCLK (io), 46 PF4/EN0LED1/M0FAULT0/SSI3XDAT2/TRD3 (io), 47 VDD (power), 48 GND, 49 PG0/EN0PPS/EPI0S11/I2C1SCL/M0PWM4 (io), 50 PG1/EPI0S10/I2C1SDA/M0PWM5 (io), 51 VDD (power), 52 VDD (power), 53 EN0RXIn (in), 54 EN0RXIp (in), 55 GND, 56 EN0TXOn (out), 57 EN0TXOp (out), 58 GND, 59 RBIAS, 60 PK7/EPI0S24/I2C4SDA/RTCCLK/U0RI (io), 61 PK6/EN0LED1/EPI0S25/I2C4SCL/M0FAULT1 (io), 62 PK5/EN0LED2/EPI0S31/I2C3SDA/M0PWM7 (io), 63 PK4/EN0LED0/EPI0S32/I2C3SCL/M0PWM6 (io), 64 WAKEn (in), 65 HIBn (out), 66 XOSC0 (in), 67 XOSC1 (out), 68 VBAT (power), 69 VDD (power), 70 RST (in), 71 PM7/T5CCP1/TMPR0/U0RI (io), 72 PM6/T5CCP0/TMPR1/U0DSR (io), 73 PM5/T4CCP1/TMPR2/U0DCD (io), 74 PM4/T4CCP0/TMPR3/U0CTS (io), 75 PM3/EPI0S12/T3CCP1 (io), 76 PM2/EPI0S13/T3CCP0 (io), 77 PM1/EPI0S14/T2CCP1 (io), 78 PM0/EPI0S15/T2CCP0 (io), 79 VDD (power), 80 GND, 81 PL0/EPI0S16/I2C2SDA/M0FAULT3/USB0D0 (io), 82 PL1/EPI0S17/I2C2SCL/PHA0/USB0D1 (io), 83 PL2/EPI0S18/PHB0/USB0D2 (io), 84 PL3/EPI0S19/IDX0/USB0D3 (io), 85 PL4/EPI0S26/T0CCP0/USB0D4 (io), 86 PL5/EPI0S33/T0CCP1/USB0D5 (io), 87 VDDC (power), 88 OSC0 (in), 89 OSC1 (out), 90 VDD (power), 91 PB2/EPI0S27/I2C0SCL/T5CCP0/USB0STP (io), 92 PB3/EPI0S28/I2C0SDA/T5CCP1/USB0CLK (io), 93 PL7/T1CCP1/USB0DM (io), 94 PL6/T1CCP0/USB0DP (io), 95 PB0/CAN1RX/T4CCP0/U1RX/USB0ID (io), 96 PB1/CAN1TX/T4CCP1/U1TX/USB0VBUS (io), 97 TDO/SWO (out), 98 TDI (in), 99 TMS/SWDIO (io), 100 TCK/SWCLK (in), 101 VDD (power), 102 PQ4/DIVSCLK/U1RX (io), 103 PP2/EPI0S29/U0DTR/USB0NXT (io), 104 PP3/EPI0S30/U0DCD/U1CTS/USB0DIR (io), 105 PP4/U0DSR/U3RTS/USB0D7 (io), 106 PP5/I2C2SCL/U3CTS/USB0D6 (io), 107 PN0/U1RTS (io), 108 PN1/U1CTS (io), 109 PN2/EPI0S29/U1DCD/U2RTS (io), 110 PN3/EPI0S30/U1DSR/U2CTS (io), 111 PN4/EPI0S34/I2C2SDA/U1DTR/U3RTS (io), 112 PN5/EPI0S35/I2C2SCL/U1RI/U3CTS (io), 113 VDD (power), 114 GND, 115 VDDC (power), 116 PJ0/EN0PPS/U3RX (io), 117 PJ1/U3TX (io), 118 PP0/COMP2p/SSI3XDAT2/U6RX (io), 119 PP1/COMP2n/SSI3XDAT3/U6TX (io), 120 PB5/AIN11/I2C5SDA/SSI1CLK/U0RTS (io), 121 PB4/AIN10/I2C5SCL/SSI1FSS/U0CTS (io), 122 VDD (power), 123 PE4/AIN9/SSI1XDAT0/U1RI (io), 124 PE5/AIN8/SSI1XDAT1 (io), 125 PD4/AIN7/SSI1XDAT2/T3CCP0/U2RX (io), 126 PD5/AIN6/SSI1XDAT3/T3CCP1/U2TX (io), 127 PD6/AIN5/SSI2XDAT3/T4CCP0/USB0EPEN (io), 128 PD7/AIN4/SSI2XDAT2/T4CCP1/USB0PFLT (io)
text: Tiva-C Series ARM Cortex-M4F Microcontroller

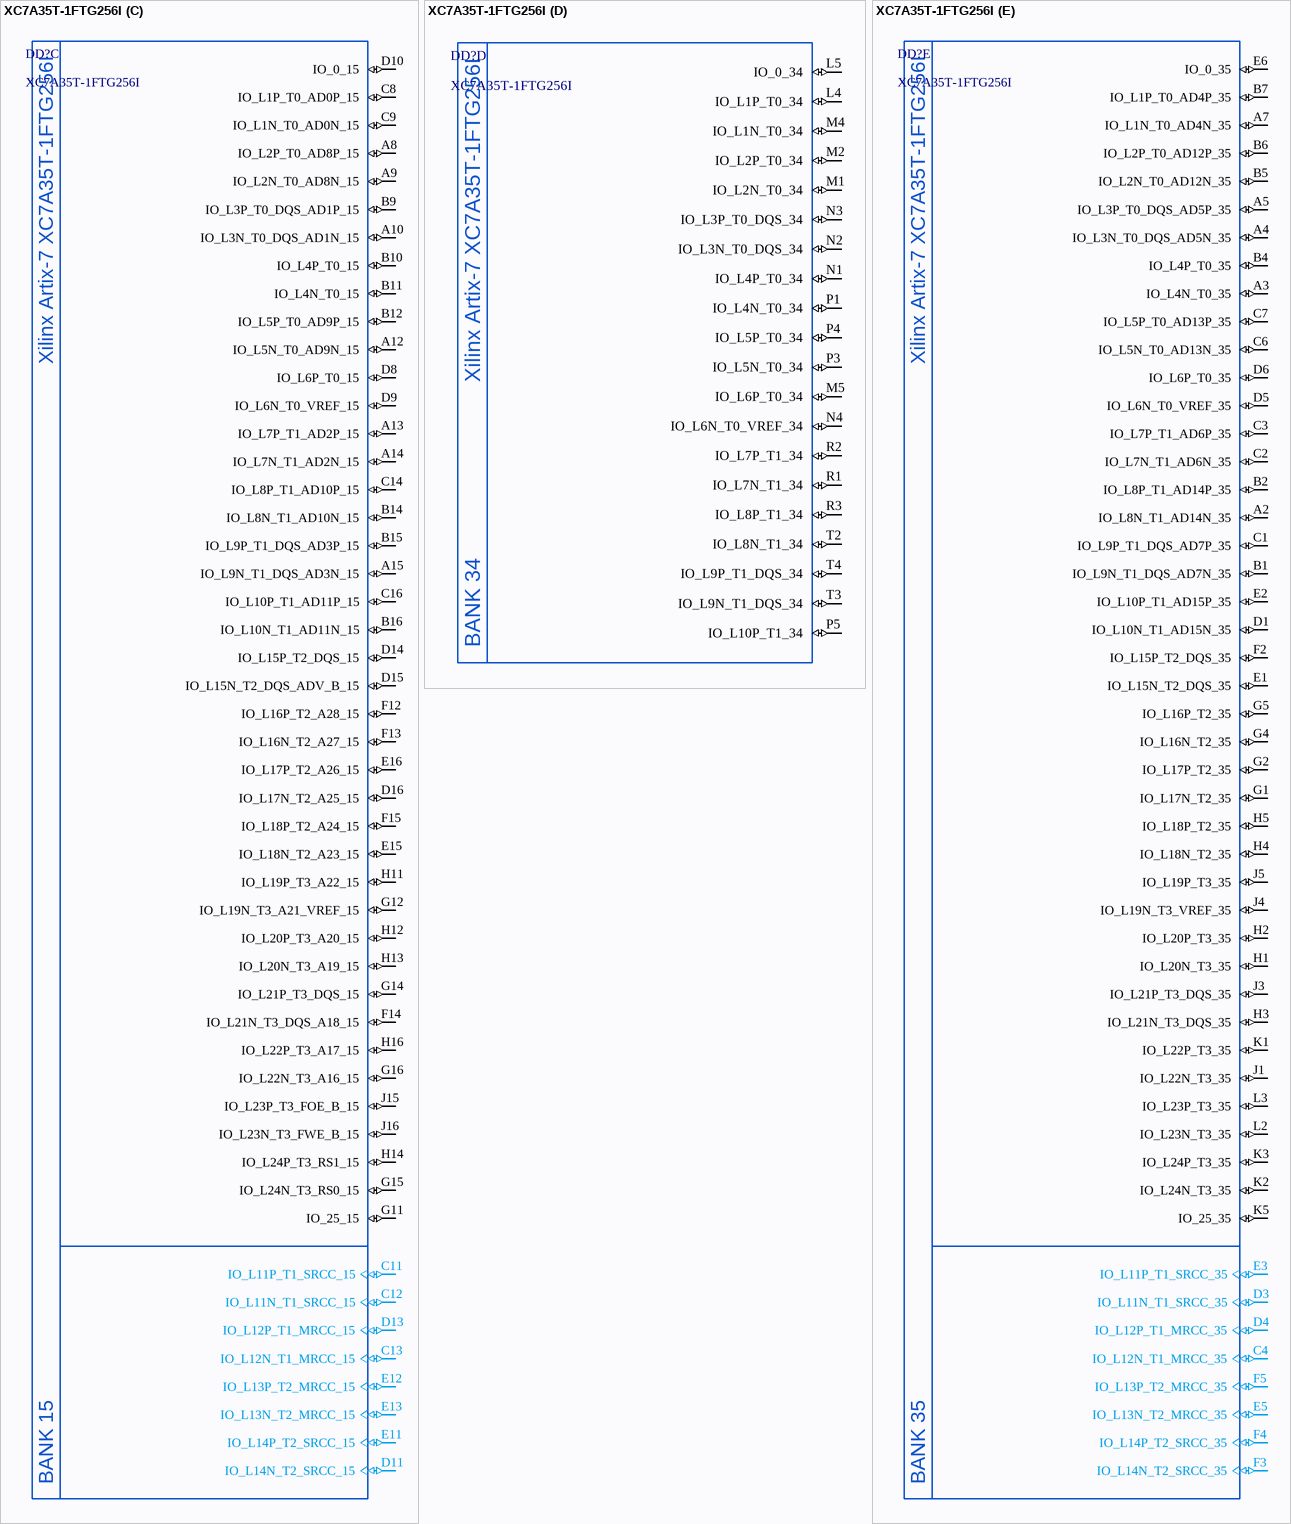
[diagram p19: symbol XC7A35T-1FTG256I]

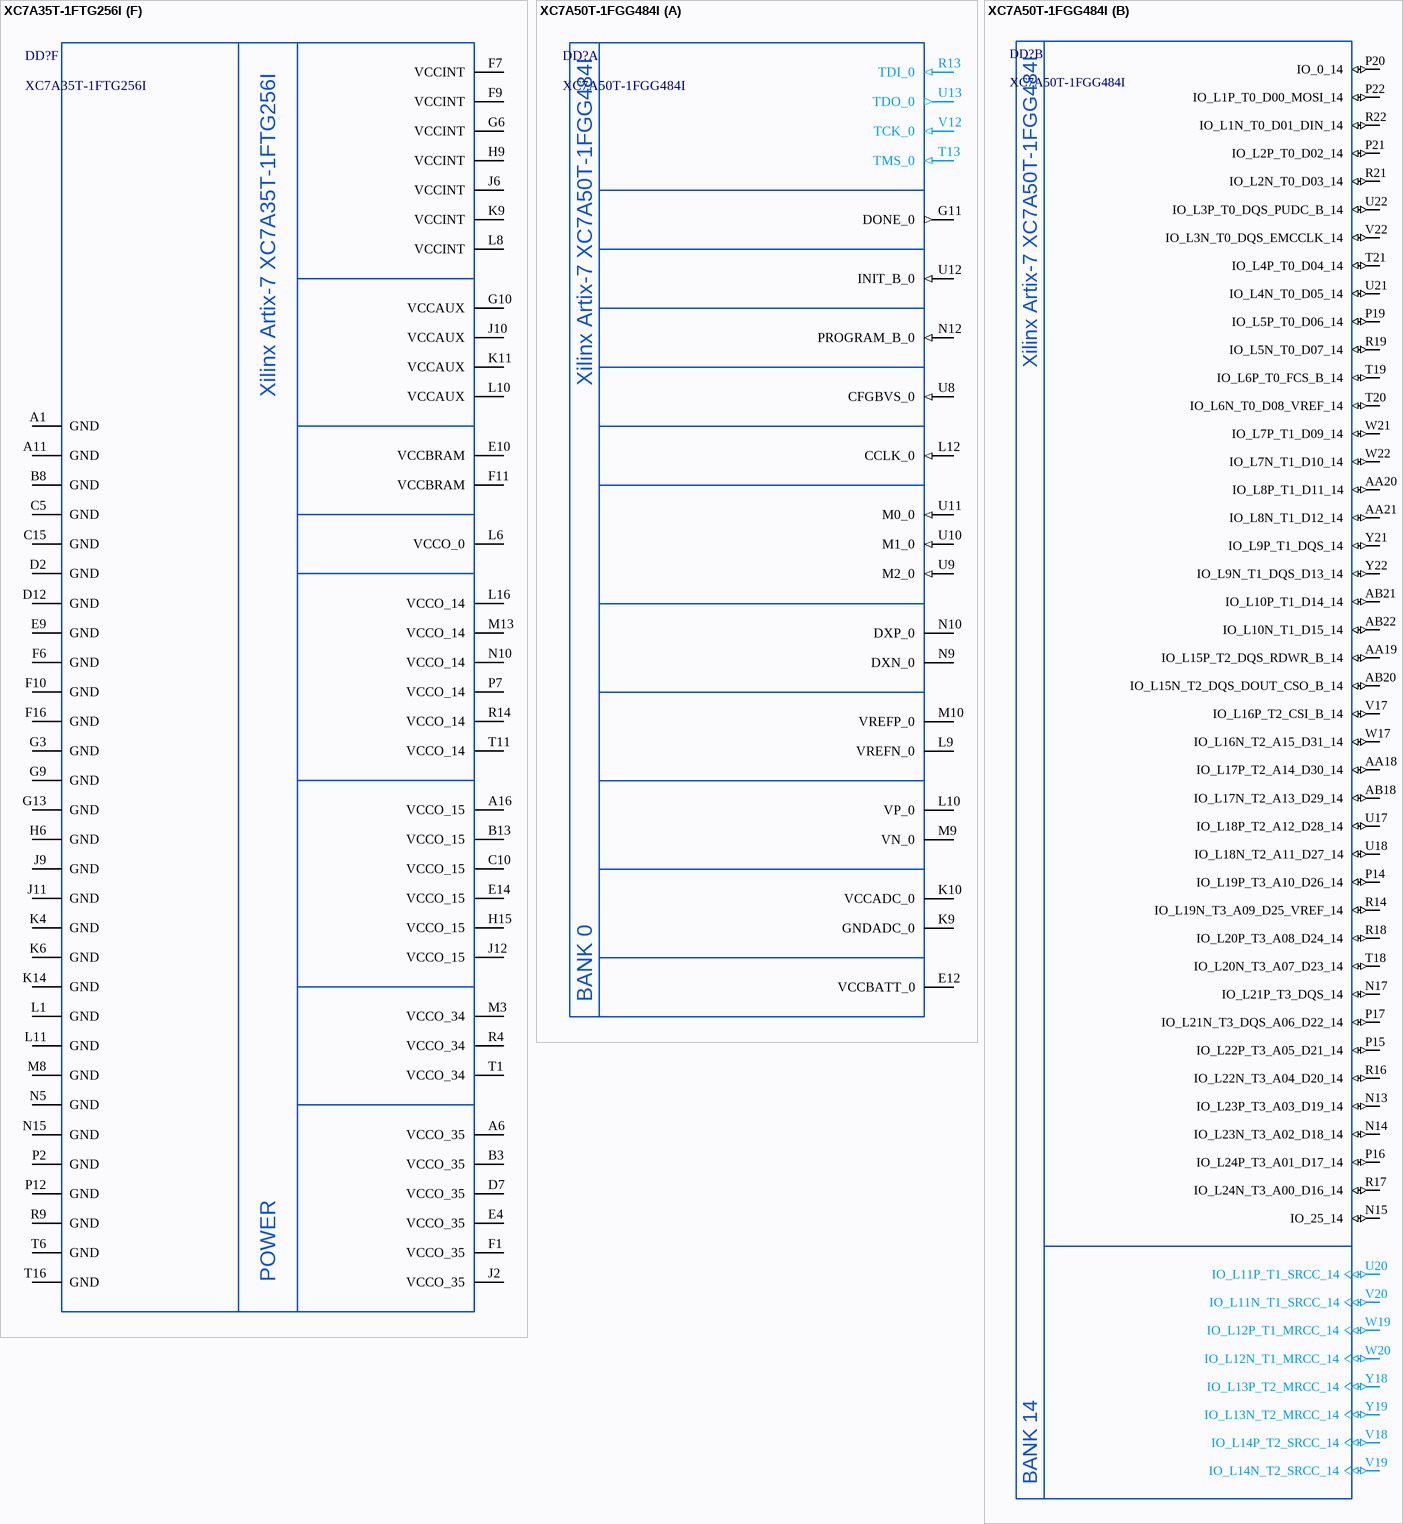
[diagram p20: symbols XC7A35T-1FTG256I to XC7A50T-1FGG484I]

## XC7A35T-1FTG256I
designator DD?
FPGA Artix-7 Series, Speed Grade 1; Manufacturer: Xilinx; Speed Grade: -1; ItemType: IC; PartNumber: XC7A35T-1FTG256I; Package: FTG-256; Marking: XC7A35T; ItemSubType: FPGA; Mounting: SMD
footprint FTG256_XC7A35T (BGA, 256-Leads, Body 17.00x17.00mmx1.55mm, Pitch 1.00mm)
part A pins: E7 CFGBVS_0 (in), E8 CCLK_0 (out), F8 VCCBATT_0 (power), G7 GNDADC_0, G8 VCCADC_0 (power), H7 VREFN_0, H8 VP_0, H10 DONE_0 (out), J7 VN_0, J8 VREFP_0, K7 DXN_0, K8 DXP_0, K10 INIT_B_0 (in), L7 TCK_0 (in), L9 PROGRAM_B_0 (in), M7 TMS_0 (in), M9 M0_0 (in), M10 M1_0 (in), M11 M2_0 (in), N7 TDI_0 (in), N8 TDO_0 (out)
part B pins: J13 IO_L1P_T0_D00_MOSI_14 (io), J14 IO_L1N_T0_D01_DIN_14 (io), K12 IO_0_14 (io), K13 IO_L5P_T0_D06_14 (io), K15 IO_L2P_T0_D02_14 (io), K16 IO_L2N_T0_D03_14 (io), L12 IO_L6P_T0_FCS_B_14 (io), L13 IO_L5N_T0_D07_14 (io), L14 IO_L4P_T0_D04_14 (io), L15 IO_L3P_T0_DQS_PUDC_B_14 (io), M6 IO_L19P_T3_A10_D26_14 (io), M12 IO_L6N_T0_D08_VREF_14 (io), M14 IO_L4N_T0_D05_14 (io), M15 IO_L3N_T0_DQS_EMCCLK_14 (io), M16 IO_L7P_T1_D09_14 (io), N6 IO_L19N_T3_A09_D25_VREF_14 (io), N9 IO_L18P_T2_A12_D28_14 (io), N11 IO_L13P_T2_MRCC_14 (io), N12 IO_L13N_T2_MRCC_14 (io), N13 IO_L11P_T1_SRCC_14 (io), N14 IO_L12P_T1_MRCC_14 (io), N16 IO_L7N_T1_D10_14 (io), P6 IO_25_14 (io), P8 IO_L20P_T3_A08_D24_14 (io), P9 IO_L18N_T2_A11_D27_14 (io), P10 IO_L14P_T2_SRCC_14 (io), P11 IO_L14N_T2_SRCC_14 (io), P13 IO_L11N_T1_SRCC_14 (io), P14 IO_L12N_T1_MRCC_14 (io), P15 IO_L8P_T1_D11_14 (io), P16 IO_L8N_T1_D12_14 (io), R5 IO_L23P_T3_A03_D19_14 (io), R6 IO_L24P_T3_A01_D17_14 (io), R7 IO_L24N_T3_A00_D16_14 (io), R8 IO_L20N_T3_A07_D23_14 (io), R10 IO_L17P_T2_A14_D30_14 (io), R11 IO_L17N_T2_A13_D29_14 (io), R12 IO_L15P_T2_DQS_RDWR_B_14 (io), R13 IO_L16P_T2_CSI_B_14 (io), R15 IO_L9P_T1_DQS_14 (io), R16 IO_L9N_T1_DQS_D13_14 (io), T5 IO_L23N_T3_A02_D18_14 (io), T7 IO_L21P_T3_DQS_14 (io), T8 IO_L21N_T3_DQS_A06_D22_14 (io), T9 IO_L22P_T3_A05_D21_14 (io), T10 IO_L22N_T3_A04_D20_14 (io), T12 IO_L15N_T2_DQS_DOUT_CSO_B_14 (io), T13 IO_L16N_T2_A15_D31_14 (io), T14 IO_L10P_T1_D14_14 (io), T15 IO_L10N_T1_D15_14 (io)
part C pins: A8 IO_L2P_T0_AD8P_15 (io), A9 IO_L2N_T0_AD8N_15 (io), A10 IO_L3N_T0_DQS_AD1N_15 (io), A12 IO_L5N_T0_AD9N_15 (io), A13 IO_L7P_T1_AD2P_15 (io), A14 IO_L7N_T1_AD2N_15 (io), A15 IO_L9N_T1_DQS_AD3N_15 (io), B9 IO_L3P_T0_DQS_AD1P_15 (io), B10 IO_L4P_T0_15 (io), B11 IO_L4N_T0_15 (io), B12 IO_L5P_T0_AD9P_15 (io), B14 IO_L8N_T1_AD10N_15 (io), B15 IO_L9P_T1_DQS_AD3P_15 (io), B16 IO_L10N_T1_AD11N_15 (io), C8 IO_L1P_T0_AD0P_15 (io), C9 IO_L1N_T0_AD0N_15 (io), C11 IO_L11P_T1_SRCC_15 (io), C12 IO_L11N_T1_SRCC_15 (io), C13 IO_L12N_T1_MRCC_15 (io), C14 IO_L8P_T1_AD10P_15 (io), C16 IO_L10P_T1_AD11P_15 (io), D8 IO_L6P_T0_15 (io), D9 IO_L6N_T0_VREF_15 (io), D10 IO_0_15 (io), D11 IO_L14N_T2_SRCC_15 (io), D13 IO_L12P_T1_MRCC_15 (io), D14 IO_L15P_T2_DQS_15 (io), D15 IO_L15N_T2_DQS_ADV_B_15 (io), D16 IO_L17N_T2_A25_15 (io), E11 IO_L14P_T2_SRCC_15 (io), E12 IO_L13P_T2_MRCC_15 (io), E13 IO_L13N_T2_MRCC_15 (io), E15 IO_L18N_T2_A23_15 (io), E16 IO_L17P_T2_A26_15 (io), F12 IO_L16P_T2_A28_15 (io), F13 IO_L16N_T2_A27_15 (io), F14 IO_L21N_T3_DQS_A18_15 (io), F15 IO_L18P_T2_A24_15 (io), G11 IO_25_15 (io), G12 IO_L19N_T3_A21_VREF_15 (io), G14 IO_L21P_T3_DQS_15 (io), G15 IO_L24N_T3_RS0_15 (io), G16 IO_L22N_T3_A16_15 (io), H11 IO_L19P_T3_A22_15 (io), H12 IO_L20P_T3_A20_15 (io), H13 IO_L20N_T3_A19_15 (io), H14 IO_L24P_T3_RS1_15 (io), H16 IO_L22P_T3_A17_15 (io), J15 IO_L23P_T3_FOE_B_15 (io), J16 IO_L23N_T3_FWE_B_15 (io)
part D pins: L4 IO_L1P_T0_34 (io), L5 IO_0_34 (io), M1 IO_L2N_T0_34 (io), M2 IO_L2P_T0_34 (io), M4 IO_L1N_T0_34 (io), M5 IO_L6P_T0_34 (io), N1 IO_L4P_T0_34 (io), N2 IO_L3N_T0_DQS_34 (io), N3 IO_L3P_T0_DQS_34 (io), N4 IO_L6N_T0_VREF_34 (io), P1 IO_L4N_T0_34 (io), P3 IO_L5N_T0_34 (io), P4 IO_L5P_T0_34 (io), P5 IO_L10P_T1_34 (io), R1 IO_L7N_T1_34 (io), R2 IO_L7P_T1_34 (io), R3 IO_L8P_T1_34 (io), T2 IO_L8N_T1_34 (io), T3 IO_L9N_T1_DQS_34 (io), T4 IO_L9P_T1_DQS_34 (io)
part E pins: A2 IO_L8N_T1_AD14N_35 (io), A3 IO_L4N_T0_35 (io), A4 IO_L3N_T0_DQS_AD5N_35 (io), A5 IO_L3P_T0_DQS_AD5P_35 (io), A7 IO_L1N_T0_AD4N_35 (io), B1 IO_L9N_T1_DQS_AD7N_35 (io), B2 IO_L8P_T1_AD14P_35 (io), B4 IO_L4P_T0_35 (io), B5 IO_L2N_T0_AD12N_35 (io), B6 IO_L2P_T0_AD12P_35 (io), B7 IO_L1P_T0_AD4P_35 (io), C1 IO_L9P_T1_DQS_AD7P_35 (io), C2 IO_L7N_T1_AD6N_35 (io), C3 IO_L7P_T1_AD6P_35 (io), C4 IO_L12N_T1_MRCC_35 (io), C6 IO_L5N_T0_AD13N_35 (io), C7 IO_L5P_T0_AD13P_35 (io), D1 IO_L10N_T1_AD15N_35 (io), D3 IO_L11N_T1_SRCC_35 (io), D4 IO_L12P_T1_MRCC_35 (io), D5 IO_L6N_T0_VREF_35 (io), D6 IO_L6P_T0_35 (io), E1 IO_L15N_T2_DQS_35 (io), E2 IO_L10P_T1_AD15P_35 (io), E3 IO_L11P_T1_SRCC_35 (io), E5 IO_L13N_T2_MRCC_35 (io), E6 IO_0_35 (io), F2 IO_L15P_T2_DQS_35 (io), F3 IO_L14N_T2_SRCC_35 (io), F4 IO_L14P_T2_SRCC_35 (io), F5 IO_L13P_T2_MRCC_35 (io), G1 IO_L17N_T2_35 (io), G2 IO_L17P_T2_35 (io), G4 IO_L16N_T2_35 (io), G5 IO_L16P_T2_35 (io), H1 IO_L20N_T3_35 (io), H2 IO_L20P_T3_35 (io), H3 IO_L21N_T3_DQS_35 (io), H4 IO_L18N_T2_35 (io), H5 IO_L18P_T2_35 (io), J1 IO_L22N_T3_35 (io), J3 IO_L21P_T3_DQS_35 (io), J4 IO_L19N_T3_VREF_35 (io), J5 IO_L19P_T3_35 (io), K1 IO_L22P_T3_35 (io), K2 IO_L24N_T3_35 (io), K3 IO_L24P_T3_35 (io), K5 IO_25_35 (io), L2 IO_L23N_T3_35 (io), L3 IO_L23P_T3_35 (io)
part F pins: A1 GND, A6 VCCO_35 (power), A11 GND, A16 VCCO_15 (power), B3 VCCO_35 (power), B8 GND, B13 VCCO_15 (power), C5 GND, C10 VCCO_15 (power), C15 GND, D2 GND, D7 VCCO_35 (power), D12 GND, E4 VCCO_35 (power), E9 GND, E10 VCCBRAM (power), E14 VCCO_15 (power), F1 VCCO_35 (power), F6 GND, F7 VCCINT (power), F9 VCCINT (power), F10 GND, F11 VCCBRAM (power), F16 GND, G3 GND, G6 VCCINT (power), G9 GND, G10 VCCAUX (power), G13 GND, H6 GND, H9 VCCINT (power), H15 VCCO_15 (power), J2 VCCO_35 (power), J6 VCCINT (power), J9 GND, J10 VCCAUX (power), J11 GND, J12 VCCO_15 (power), K4 GND, K6 GND, K9 VCCINT (power), K11 VCCAUX (power), K14 GND, L1 GND, L6 VCCO_0 (power), L8 VCCINT (power), L10 VCCAUX (power), L11 GND, L16 VCCO_14 (power), M3 VCCO_34 (power), M8 GND, M13 VCCO_14 (power), N5 GND, N10 VCCO_14 (power), N15 GND, P2 GND, P7 VCCO_14 (power), P12 GND, R4 VCCO_34 (power), R9 GND, R14 VCCO_14 (power), T1 VCCO_34 (power), T6 GND, T11 VCCO_14 (power), T16 GND
part A text: Xilinx Artix-7 XC7A35T-1FTG256I; BANK 0
part B text: Xilinx Artix-7 XC7A35T-1FTG256I; BANK 14
part C text: Xilinx Artix-7 XC7A35T-1FTG256I; BANK 15
part D text: Xilinx Artix-7 XC7A35T-1FTG256I; BANK 34
part E text: Xilinx Artix-7 XC7A35T-1FTG256I; BANK 35
part F text: Xilinx Artix-7 XC7A35T-1FTG256I; POWER

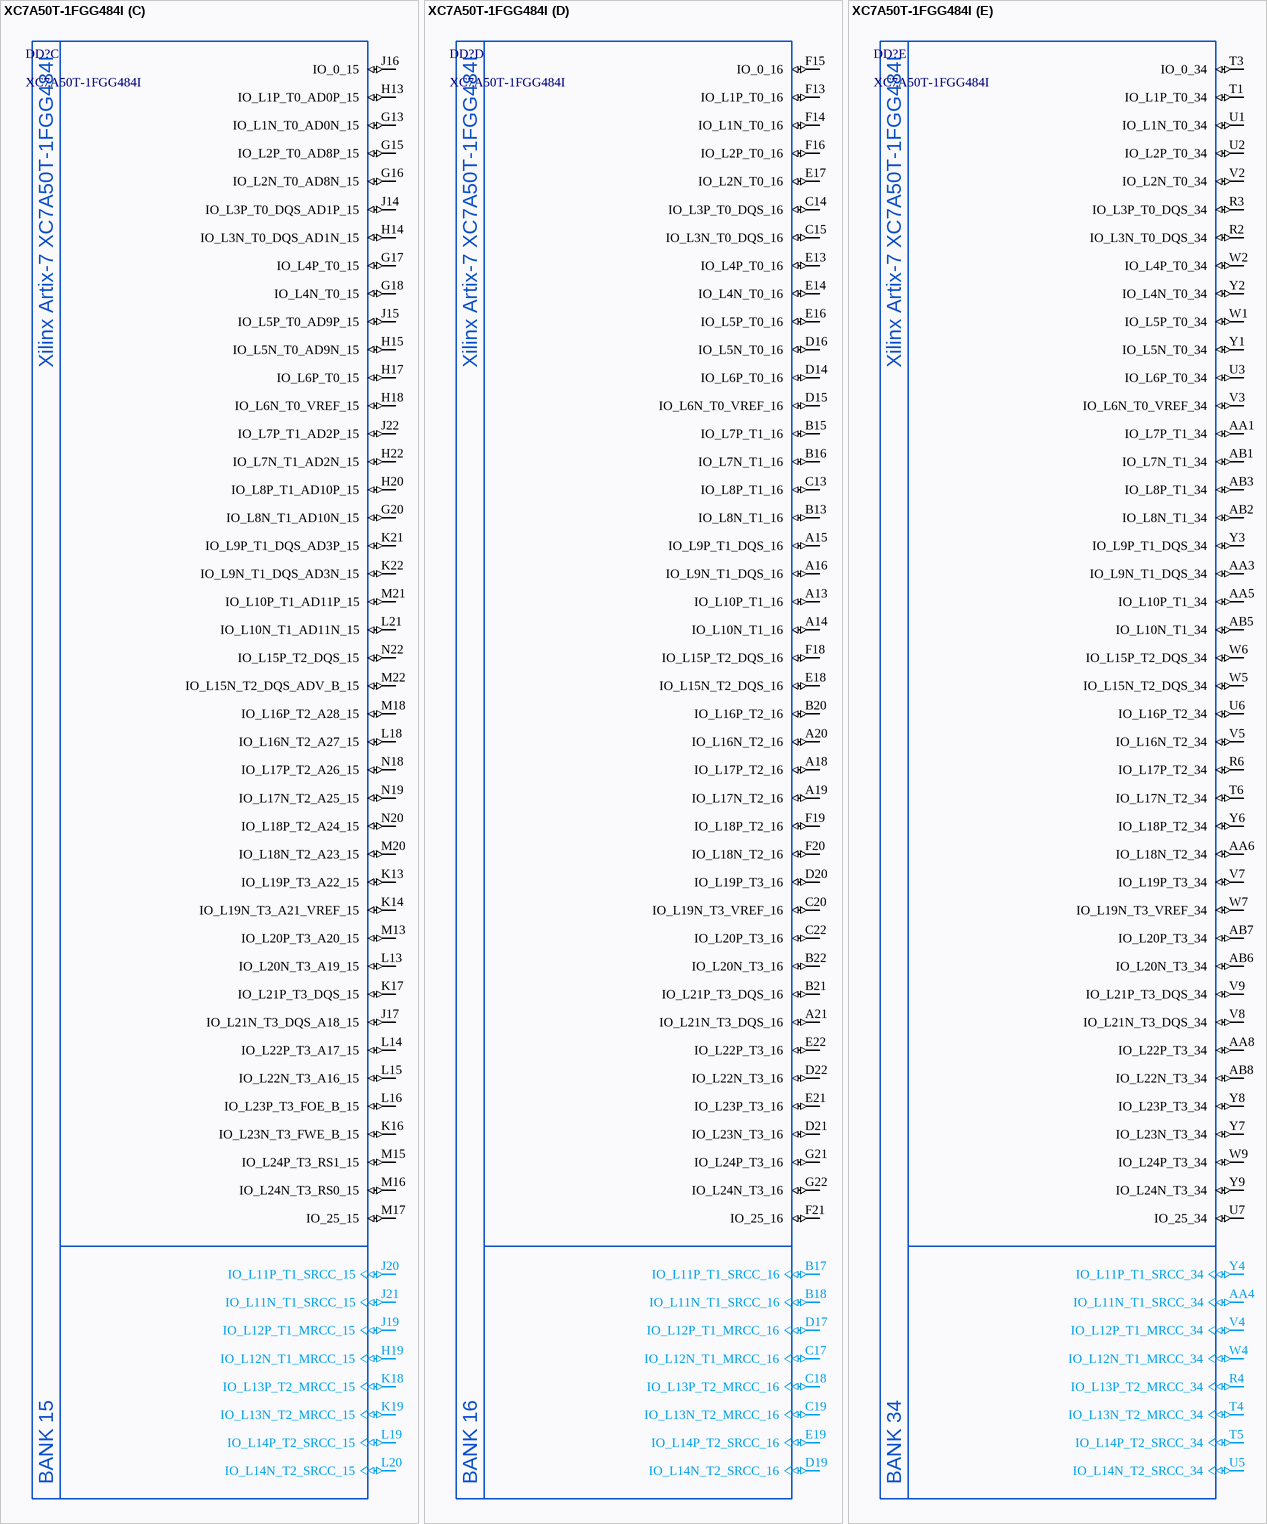
[diagram p21: symbol XC7A50T-1FGG484I]

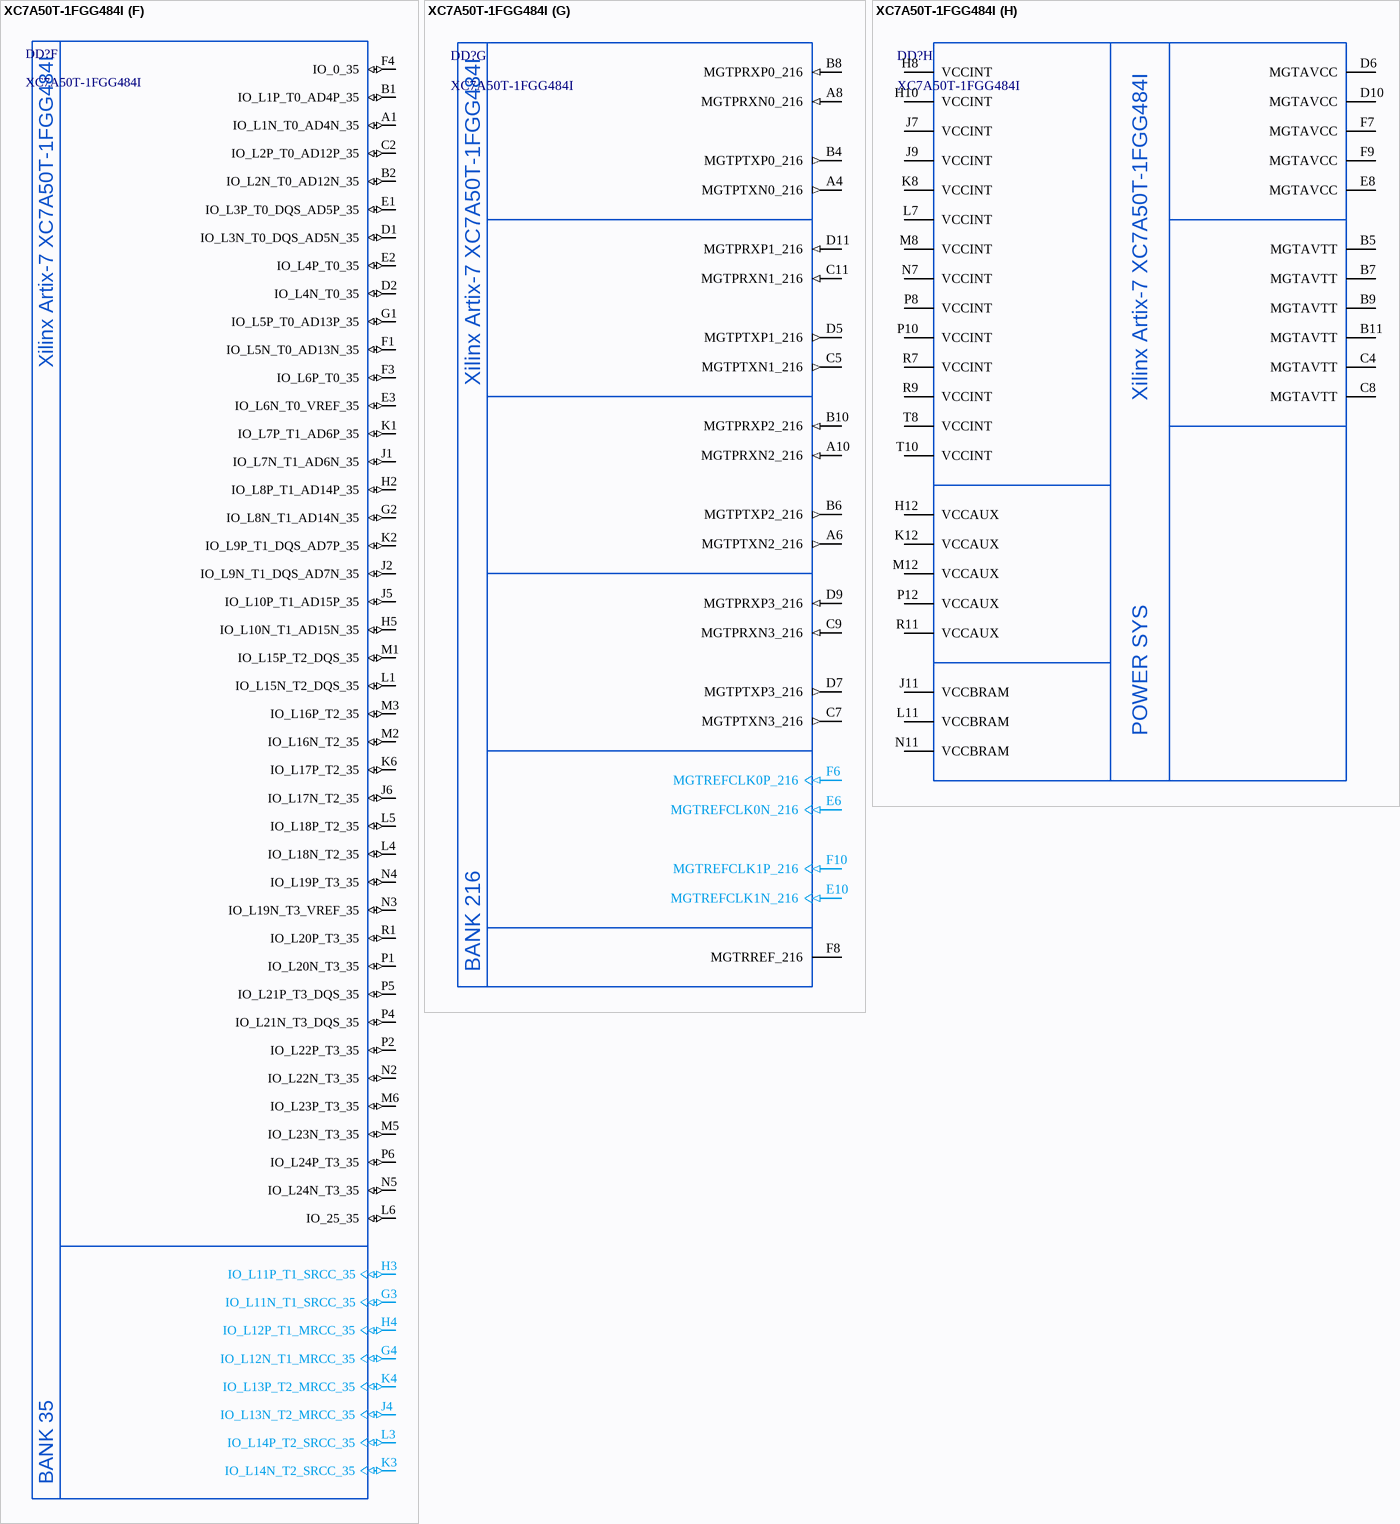
[diagram p22: symbol XC7A50T-1FGG484I]

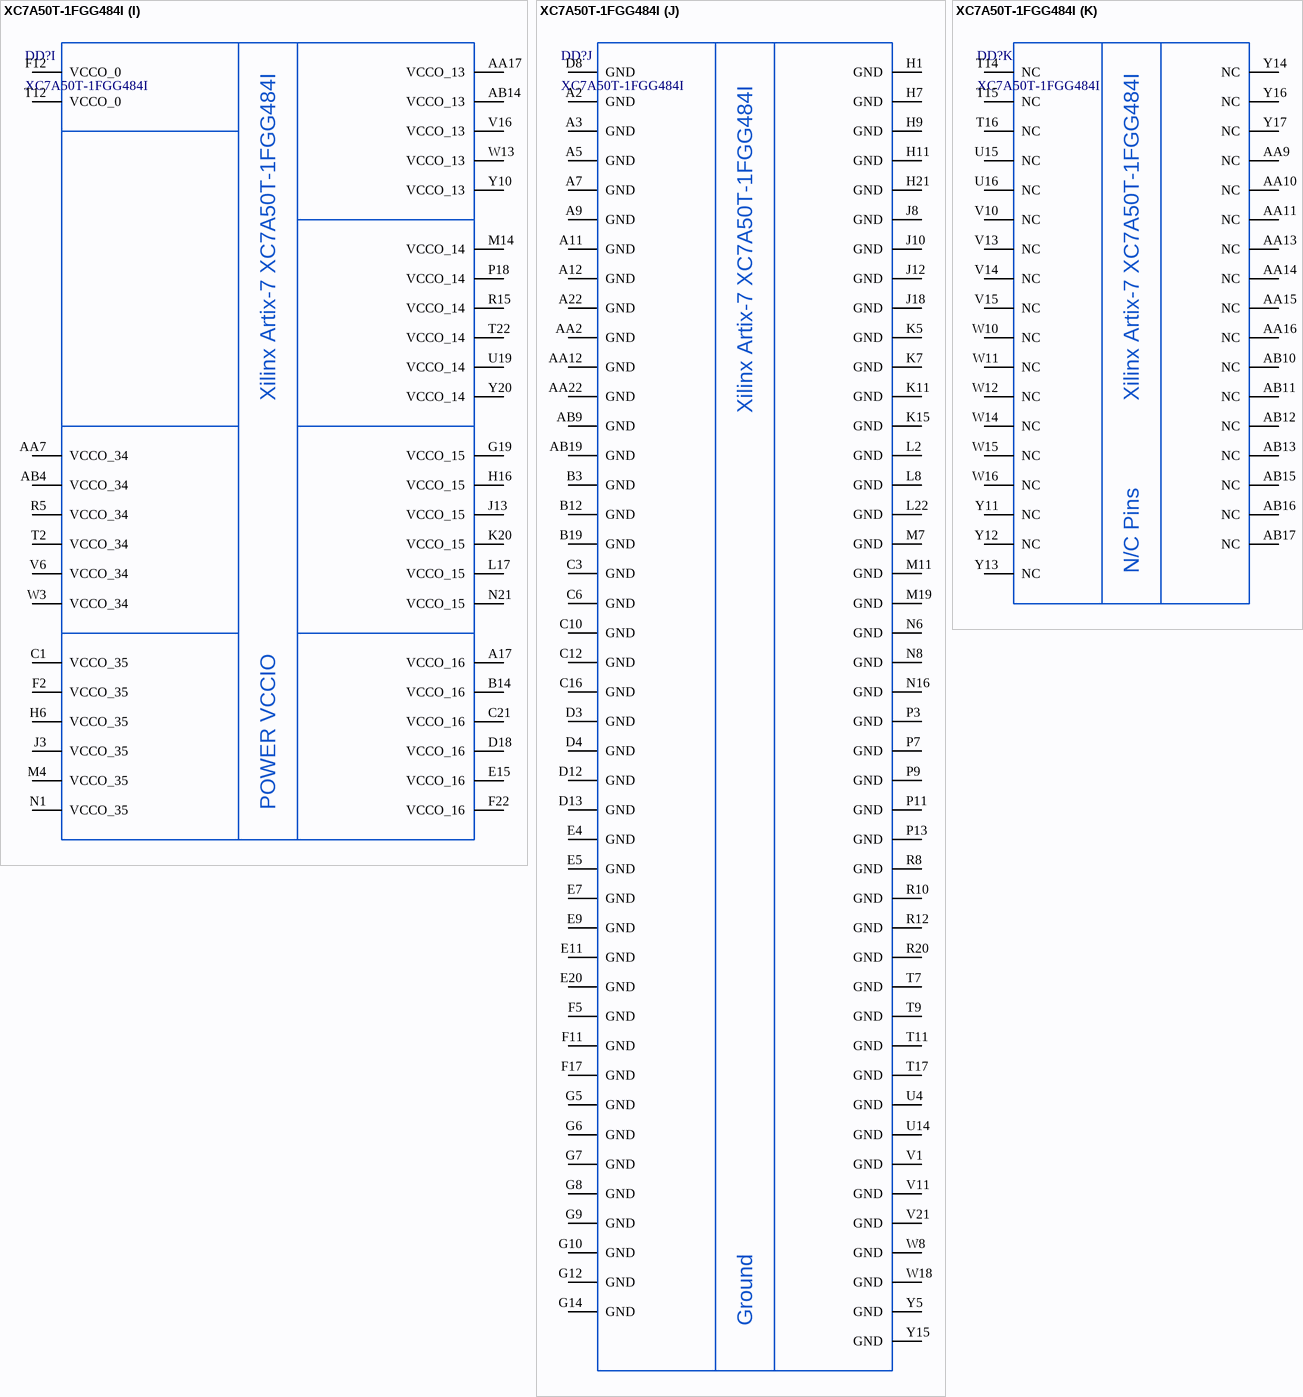
[diagram p23: symbol XC7A50T-1FGG484I]

## XC7A50T-1FGG484I
designator DD?
FPGA Artix-7 Series, Speed Grade 1; Manufacturer: Xilinx; Speed Grade: -1; ItemType: IC; PartNumber: XC7A50T-1FGG484I; Package: FGG-484; Marking: XC7A50T; ItemSubType: FPGA; Mounting: SMD
footprint FGG484_XC7A50T (BGA, 484-Leads, Body 23.00x23.00mmx2.20mm, Pitch 1.00mm)
part A pins: E12 VCCBATT_0 (power), G11 DONE_0 (out), K9 GNDADC_0, K10 VCCADC_0 (power), L9 VREFN_0, L10 VP_0, L12 CCLK_0 (in), M9 VN_0, M10 VREFP_0, N9 DXN_0, N10 DXP_0, N12 PROGRAM_B_0 (in), R13 TDI_0 (in), T13 TMS_0 (in), U8 CFGBVS_0 (in), U9 M2_0 (in), U10 M1_0 (in), U11 M0_0 (in), U12 INIT_B_0 (in), U13 TDO_0 (out), V12 TCK_0 (in)
part B pins: AA18 IO_L17P_T2_A14_D30_14 (io), AA19 IO_L15P_T2_DQS_RDWR_B_14 (io), AA20 IO_L8P_T1_D11_14 (io), AA21 IO_L8N_T1_D12_14 (io), AB18 IO_L17N_T2_A13_D29_14 (io), AB20 IO_L15N_T2_DQS_DOUT_CSO_B_14 (io), AB21 IO_L10P_T1_D14_14 (io), AB22 IO_L10N_T1_D15_14 (io), N13 IO_L23P_T3_A03_D19_14 (io), N14 IO_L23N_T3_A02_D18_14 (io), N15 IO_25_14 (io), N17 IO_L21P_T3_DQS_14 (io), P14 IO_L19P_T3_A10_D26_14 (io), P15 IO_L22P_T3_A05_D21_14 (io), P16 IO_L24P_T3_A01_D17_14 (io), P17 IO_L21N_T3_DQS_A06_D22_14 (io), P19 IO_L5P_T0_D06_14 (io), P20 IO_0_14 (io), P21 IO_L2P_T0_D02_14 (io), P22 IO_L1P_T0_D00_MOSI_14 (io), R14 IO_L19N_T3_A09_D25_VREF_14 (io), R16 IO_L22N_T3_A04_D20_14 (io), R17 IO_L24N_T3_A00_D16_14 (io), R18 IO_L20P_T3_A08_D24_14 (io), R19 IO_L5N_T0_D07_14 (io), R21 IO_L2N_T0_D03_14 (io), R22 IO_L1N_T0_D01_DIN_14 (io), T18 IO_L20N_T3_A07_D23_14 (io), T19 IO_L6P_T0_FCS_B_14 (io), T20 IO_L6N_T0_D08_VREF_14 (io), T21 IO_L4P_T0_D04_14 (io), U17 IO_L18P_T2_A12_D28_14 (io), U18 IO_L18N_T2_A11_D27_14 (io), U20 IO_L11P_T1_SRCC_14 (io), U21 IO_L4N_T0_D05_14 (io), U22 IO_L3P_T0_DQS_PUDC_B_14 (io), V17 IO_L16P_T2_CSI_B_14 (io), V18 IO_L14P_T2_SRCC_14 (io), V19 IO_L14N_T2_SRCC_14 (io), V20 IO_L11N_T1_SRCC_14 (io), V22 IO_L3N_T0_DQS_EMCCLK_14 (io), W17 IO_L16N_T2_A15_D31_14 (io), W19 IO_L12P_T1_MRCC_14 (io), W20 IO_L12N_T1_MRCC_14 (io), W21 IO_L7P_T1_D09_14 (io), W22 IO_L7N_T1_D10_14 (io), Y18 IO_L13P_T2_MRCC_14 (io), Y19 IO_L13N_T2_MRCC_14 (io), Y21 IO_L9P_T1_DQS_14 (io), Y22 IO_L9N_T1_DQS_D13_14 (io)
part C pins: G13 IO_L1N_T0_AD0N_15 (io), G15 IO_L2P_T0_AD8P_15 (io), G16 IO_L2N_T0_AD8N_15 (io), G17 IO_L4P_T0_15 (io), G18 IO_L4N_T0_15 (io), G20 IO_L8N_T1_AD10N_15 (io), H13 IO_L1P_T0_AD0P_15 (io), H14 IO_L3N_T0_DQS_AD1N_15 (io), H15 IO_L5N_T0_AD9N_15 (io), H17 IO_L6P_T0_15 (io), H18 IO_L6N_T0_VREF_15 (io), H19 IO_L12N_T1_MRCC_15 (io), H20 IO_L8P_T1_AD10P_15 (io), H22 IO_L7N_T1_AD2N_15 (io), J14 IO_L3P_T0_DQS_AD1P_15 (io), J15 IO_L5P_T0_AD9P_15 (io), J16 IO_0_15 (io), J17 IO_L21N_T3_DQS_A18_15 (io), J19 IO_L12P_T1_MRCC_15 (io), J20 IO_L11P_T1_SRCC_15 (io), J21 IO_L11N_T1_SRCC_15 (io), J22 IO_L7P_T1_AD2P_15 (io), K13 IO_L19P_T3_A22_15 (io), K14 IO_L19N_T3_A21_VREF_15 (io), K16 IO_L23N_T3_FWE_B_15 (io), K17 IO_L21P_T3_DQS_15 (io), K18 IO_L13P_T2_MRCC_15 (io), K19 IO_L13N_T2_MRCC_15 (io), K21 IO_L9P_T1_DQS_AD3P_15 (io), K22 IO_L9N_T1_DQS_AD3N_15 (io), L13 IO_L20N_T3_A19_15 (io), L14 IO_L22P_T3_A17_15 (io), L15 IO_L22N_T3_A16_15 (io), L16 IO_L23P_T3_FOE_B_15 (io), L18 IO_L16N_T2_A27_15 (io), L19 IO_L14P_T2_SRCC_15 (io), L20 IO_L14N_T2_SRCC_15 (io), L21 IO_L10N_T1_AD11N_15 (io), M13 IO_L20P_T3_A20_15 (io), M15 IO_L24P_T3_RS1_15 (io), M16 IO_L24N_T3_RS0_15 (io), M17 IO_25_15 (io), M18 IO_L16P_T2_A28_15 (io), M20 IO_L18N_T2_A23_15 (io), M21 IO_L10P_T1_AD11P_15 (io), M22 IO_L15N_T2_DQS_ADV_B_15 (io), N18 IO_L17P_T2_A26_15 (io), N19 IO_L17N_T2_A25_15 (io), N20 IO_L18P_T2_A24_15 (io), N22 IO_L15P_T2_DQS_15 (io)
part D pins: A13 IO_L10P_T1_16 (io), A14 IO_L10N_T1_16 (io), A15 IO_L9P_T1_DQS_16 (io), A16 IO_L9N_T1_DQS_16 (io), A18 IO_L17P_T2_16 (io), A19 IO_L17N_T2_16 (io), A20 IO_L16N_T2_16 (io), A21 IO_L21N_T3_DQS_16 (io), B13 IO_L8N_T1_16 (io), B15 IO_L7P_T1_16 (io), B16 IO_L7N_T1_16 (io), B17 IO_L11P_T1_SRCC_16 (io), B18 IO_L11N_T1_SRCC_16 (io), B20 IO_L16P_T2_16 (io), B21 IO_L21P_T3_DQS_16 (io), B22 IO_L20N_T3_16 (io), C13 IO_L8P_T1_16 (io), C14 IO_L3P_T0_DQS_16 (io), C15 IO_L3N_T0_DQS_16 (io), C17 IO_L12N_T1_MRCC_16 (io), C18 IO_L13P_T2_MRCC_16 (io), C19 IO_L13N_T2_MRCC_16 (io), C20 IO_L19N_T3_VREF_16 (io), C22 IO_L20P_T3_16 (io), D14 IO_L6P_T0_16 (io), D15 IO_L6N_T0_VREF_16 (io), D16 IO_L5N_T0_16 (io), D17 IO_L12P_T1_MRCC_16 (io), D19 IO_L14N_T2_SRCC_16 (io), D20 IO_L19P_T3_16 (io), D21 IO_L23N_T3_16 (io), D22 IO_L22N_T3_16 (io), E13 IO_L4P_T0_16 (io), E14 IO_L4N_T0_16 (io), E16 IO_L5P_T0_16 (io), E17 IO_L2N_T0_16 (io), E18 IO_L15N_T2_DQS_16 (io), E19 IO_L14P_T2_SRCC_16 (io), E21 IO_L23P_T3_16 (io), E22 IO_L22P_T3_16 (io), F13 IO_L1P_T0_16 (io), F14 IO_L1N_T0_16 (io), F15 IO_0_16 (io), F16 IO_L2P_T0_16 (io), F18 IO_L15P_T2_DQS_16 (io), F19 IO_L18P_T2_16 (io), F20 IO_L18N_T2_16 (io), F21 IO_25_16 (io), G21 IO_L24P_T3_16 (io), G22 IO_L24N_T3_16 (io)
part E pins: AA1 IO_L7P_T1_34 (io), AA3 IO_L9N_T1_DQS_34 (io), AA4 IO_L11N_T1_SRCC_34 (io), AA5 IO_L10P_T1_34 (io), AA6 IO_L18N_T2_34 (io), AA8 IO_L22P_T3_34 (io), AB1 IO_L7N_T1_34 (io), AB2 IO_L8N_T1_34 (io), AB3 IO_L8P_T1_34 (io), AB5 IO_L10N_T1_34 (io), AB6 IO_L20N_T3_34 (io), AB7 IO_L20P_T3_34 (io), AB8 IO_L22N_T3_34 (io), R2 IO_L3N_T0_DQS_34 (io), R3 IO_L3P_T0_DQS_34 (io), R4 IO_L13P_T2_MRCC_34 (io), R6 IO_L17P_T2_34 (io), T1 IO_L1P_T0_34 (io), T3 IO_0_34 (io), T4 IO_L13N_T2_MRCC_34 (io), T5 IO_L14P_T2_SRCC_34 (io), T6 IO_L17N_T2_34 (io), U1 IO_L1N_T0_34 (io), U2 IO_L2P_T0_34 (io), U3 IO_L6P_T0_34 (io), U5 IO_L14N_T2_SRCC_34 (io), U6 IO_L16P_T2_34 (io), U7 IO_25_34 (io), V2 IO_L2N_T0_34 (io), V3 IO_L6N_T0_VREF_34 (io), V4 IO_L12P_T1_MRCC_34 (io), V5 IO_L16N_T2_34 (io), V7 IO_L19P_T3_34 (io), V8 IO_L21N_T3_DQS_34 (io), V9 IO_L21P_T3_DQS_34 (io), W1 IO_L5P_T0_34 (io), W2 IO_L4P_T0_34 (io), W4 IO_L12N_T1_MRCC_34 (io), W5 IO_L15N_T2_DQS_34 (io), W6 IO_L15P_T2_DQS_34 (io), W7 IO_L19N_T3_VREF_34 (io), W9 IO_L24P_T3_34 (io), Y1 IO_L5N_T0_34 (io), Y2 IO_L4N_T0_34 (io), Y3 IO_L9P_T1_DQS_34 (io), Y4 IO_L11P_T1_SRCC_34 (io), Y6 IO_L18P_T2_34 (io), Y7 IO_L23N_T3_34 (io), Y8 IO_L23P_T3_34 (io), Y9 IO_L24N_T3_34 (io)
part F pins: A1 IO_L1N_T0_AD4N_35 (io), B1 IO_L1P_T0_AD4P_35 (io), B2 IO_L2N_T0_AD12N_35 (io), C2 IO_L2P_T0_AD12P_35 (io), D1 IO_L3N_T0_DQS_AD5N_35 (io), D2 IO_L4N_T0_35 (io), E1 IO_L3P_T0_DQS_AD5P_35 (io), E2 IO_L4P_T0_35 (io), E3 IO_L6N_T0_VREF_35 (io), F1 IO_L5N_T0_AD13N_35 (io), F3 IO_L6P_T0_35 (io), F4 IO_0_35 (io), G1 IO_L5P_T0_AD13P_35 (io), G2 IO_L8N_T1_AD14N_35 (io), G3 IO_L11N_T1_SRCC_35 (io), G4 IO_L12N_T1_MRCC_35 (io), H2 IO_L8P_T1_AD14P_35 (io), H3 IO_L11P_T1_SRCC_35 (io), H4 IO_L12P_T1_MRCC_35 (io), H5 IO_L10N_T1_AD15N_35 (io), J1 IO_L7N_T1_AD6N_35 (io), J2 IO_L9N_T1_DQS_AD7N_35 (io), J4 IO_L13N_T2_MRCC_35 (io), J5 IO_L10P_T1_AD15P_35 (io), J6 IO_L17N_T2_35 (io), K1 IO_L7P_T1_AD6P_35 (io), K2 IO_L9P_T1_DQS_AD7P_35 (io), K3 IO_L14N_T2_SRCC_35 (io), K4 IO_L13P_T2_MRCC_35 (io), K6 IO_L17P_T2_35 (io), L1 IO_L15N_T2_DQS_35 (io), L3 IO_L14P_T2_SRCC_35 (io), L4 IO_L18N_T2_35 (io), L5 IO_L18P_T2_35 (io), L6 IO_25_35 (io), M1 IO_L15P_T2_DQS_35 (io), M2 IO_L16N_T2_35 (io), M3 IO_L16P_T2_35 (io), M5 IO_L23N_T3_35 (io), M6 IO_L23P_T3_35 (io), N2 IO_L22N_T3_35 (io), N3 IO_L19N_T3_VREF_35 (io), N4 IO_L19P_T3_35 (io), N5 IO_L24N_T3_35 (io), P1 IO_L20N_T3_35 (io), P2 IO_L22P_T3_35 (io), P4 IO_L21N_T3_DQS_35 (io), P5 IO_L21P_T3_DQS_35 (io), P6 IO_L24P_T3_35 (io), R1 IO_L20P_T3_35 (io)
part G pins: A4 MGTPTXN0_216 (out), A6 MGTPTXN2_216 (out), A8 MGTPRXN0_216 (in), A10 MGTPRXN2_216 (in), B4 MGTPTXP0_216 (out), B6 MGTPTXP2_216 (out), B8 MGTPRXP0_216 (in), B10 MGTPRXP2_216 (in), C5 MGTPTXN1_216 (out), C7 MGTPTXN3_216 (out), C9 MGTPRXN3_216 (in), C11 MGTPRXN1_216 (in), D5 MGTPTXP1_216 (out), D7 MGTPTXP3_216 (out), D9 MGTPRXP3_216 (in), D11 MGTPRXP1_216 (in), E6 MGTREFCLK0N_216 (in), E10 MGTREFCLK1N_216 (in), F6 MGTREFCLK0P_216 (in), F8 MGTRREF_216, F10 MGTREFCLK1P_216 (in)
part H pins: B5 MGTAVTT (power), B7 MGTAVTT (power), B9 MGTAVTT (power), B11 MGTAVTT (power), C4 MGTAVTT (power), C8 MGTAVTT (power), D6 MGTAVCC (power), D10 MGTAVCC (power), E8 MGTAVCC (power), F7 MGTAVCC (power), F9 MGTAVCC (power), H8 VCCINT (power), H10 VCCINT (power), H12 VCCAUX (power), J7 VCCINT (power), J9 VCCINT (power), J11 VCCBRAM (power), K8 VCCINT (power), K12 VCCAUX (power), L7 VCCINT (power), L11 VCCBRAM (power), M8 VCCINT (power), M12 VCCAUX (power), N7 VCCINT (power), N11 VCCBRAM (power), P8 VCCINT (power), P10 VCCINT (power), P12 VCCAUX (power), R7 VCCINT (power), R9 VCCINT (power), R11 VCCAUX (power), T8 VCCINT (power), T10 VCCINT (power)
part I pins: A17 VCCO_16 (power), AA7 VCCO_34 (power), AA17 VCCO_13 (power), AB4 VCCO_34 (power), AB14 VCCO_13 (power), B14 VCCO_16 (power), C1 VCCO_35 (power), C21 VCCO_16 (power), D18 VCCO_16 (power), E15 VCCO_16 (power), F2 VCCO_35 (power), F12 VCCO_0 (power), F22 VCCO_16 (power), G19 VCCO_15 (power), H6 VCCO_35 (power), H16 VCCO_15 (power), J3 VCCO_35 (power), J13 VCCO_15 (power), K20 VCCO_15 (power), L17 VCCO_15 (power), M4 VCCO_35 (power), M14 VCCO_14 (power), N1 VCCO_35 (power), N21 VCCO_15 (power), P18 VCCO_14 (power), R5 VCCO_34 (power), R15 VCCO_14 (power), T2 VCCO_34 (power), T12 VCCO_0 (power), T22 VCCO_14 (power), U19 VCCO_14 (power), V6 VCCO_34 (power), V16 VCCO_13 (power), W3 VCCO_34 (power), W13 VCCO_13 (power), Y10 VCCO_13 (power), Y20 VCCO_14 (power)
part J pins: A2 GND, A3 GND, A5 GND, A7 GND, A9 GND, A11 GND, A12 GND, A22 GND, AA2 GND, AA12 GND, AA22 GND, AB9 GND, AB19 GND, B3 GND, B12 GND, B19 GND, C3 GND, C6 GND, C10 GND, C12 GND, C16 GND, D3 GND, D4 GND, D8 GND, D12 GND, D13 GND, E4 GND, E5 GND, E7 GND, E9 GND, E11 GND, E20 GND, F5 GND, F11 GND, F17 GND, G5 GND, G6 GND, G7 GND, G8 GND, G9 GND, G10 GND, G12 GND, G14 GND, H1 GND, H7 GND, H9 GND, H11 GND, H21 GND, J8 GND, J10 GND, J12 GND, J18 GND, K5 GND, K7 GND, K11 GND, K15 GND, L2 GND, L8 GND, L22 GND, M7 GND, M11 GND, M19 GND, N6 GND, N8 GND, N16 GND, P3 GND, P7 GND, P9 GND, P11 GND, P13 GND, R8 GND, R10 GND, R12 GND, R20 GND, T7 GND, T9 GND, T11 GND, T17 GND, U4 GND, U14 GND, V1 GND, V11 GND, V21 GND, W8 GND, W18 GND, Y5 GND, Y15 GND
part K pins: AA9 NC, AA10 NC, AA11 NC, AA13 NC, AA14 NC, AA15 NC, AA16 NC, AB10 NC, AB11 NC, AB12 NC, AB13 NC, AB15 NC, AB16 NC, AB17 NC, T14 NC, T15 NC, T16 NC, U15 NC, U16 NC, V10 NC, V13 NC, V14 NC, V15 NC, W10 NC, W11 NC, W12 NC, W14 NC, W15 NC, W16 NC, Y11 NC, Y12 NC, Y13 NC, Y14 NC, Y16 NC, Y17 NC
part A text: Xilinx Artix-7 XC7A50T-1FGG484I; BANK 0
part B text: Xilinx Artix-7 XC7A50T-1FGG484I; BANK 14
part C text: Xilinx Artix-7 XC7A50T-1FGG484I; BANK 15
part D text: Xilinx Artix-7 XC7A50T-1FGG484I; BANK 16
part E text: Xilinx Artix-7 XC7A50T-1FGG484I; BANK 34
part F text: Xilinx Artix-7 XC7A50T-1FGG484I; BANK 35
part G text: Xilinx Artix-7 XC7A50T-1FGG484I; BANK 216
part H text: Xilinx Artix-7 XC7A50T-1FGG484I; POWER SYS
part I text: Xilinx Artix-7 XC7A50T-1FGG484I; POWER VCCIO
part J text: Xilinx Artix-7 XC7A50T-1FGG484I; Ground
part K text: Xilinx Artix-7 XC7A50T-1FGG484I; N/C Pins

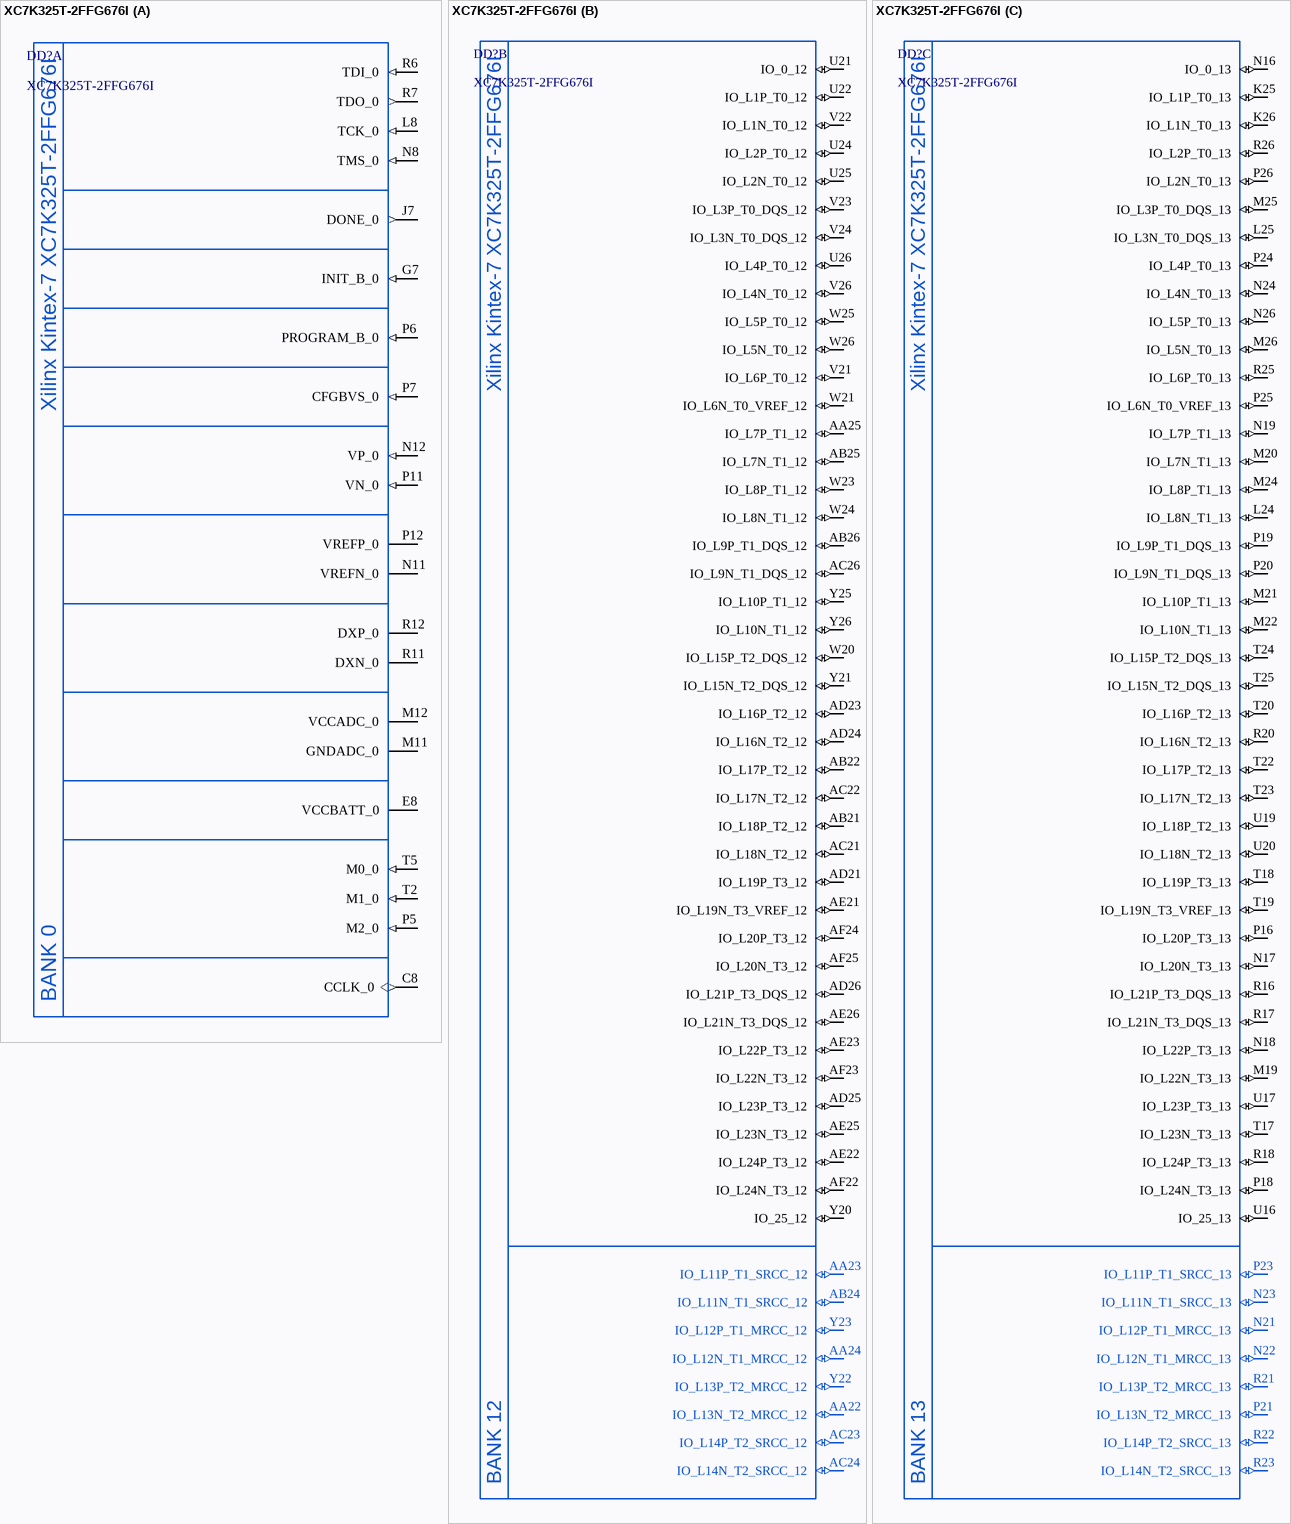
[diagram p24: symbol XC7K325T-2FFG676I]

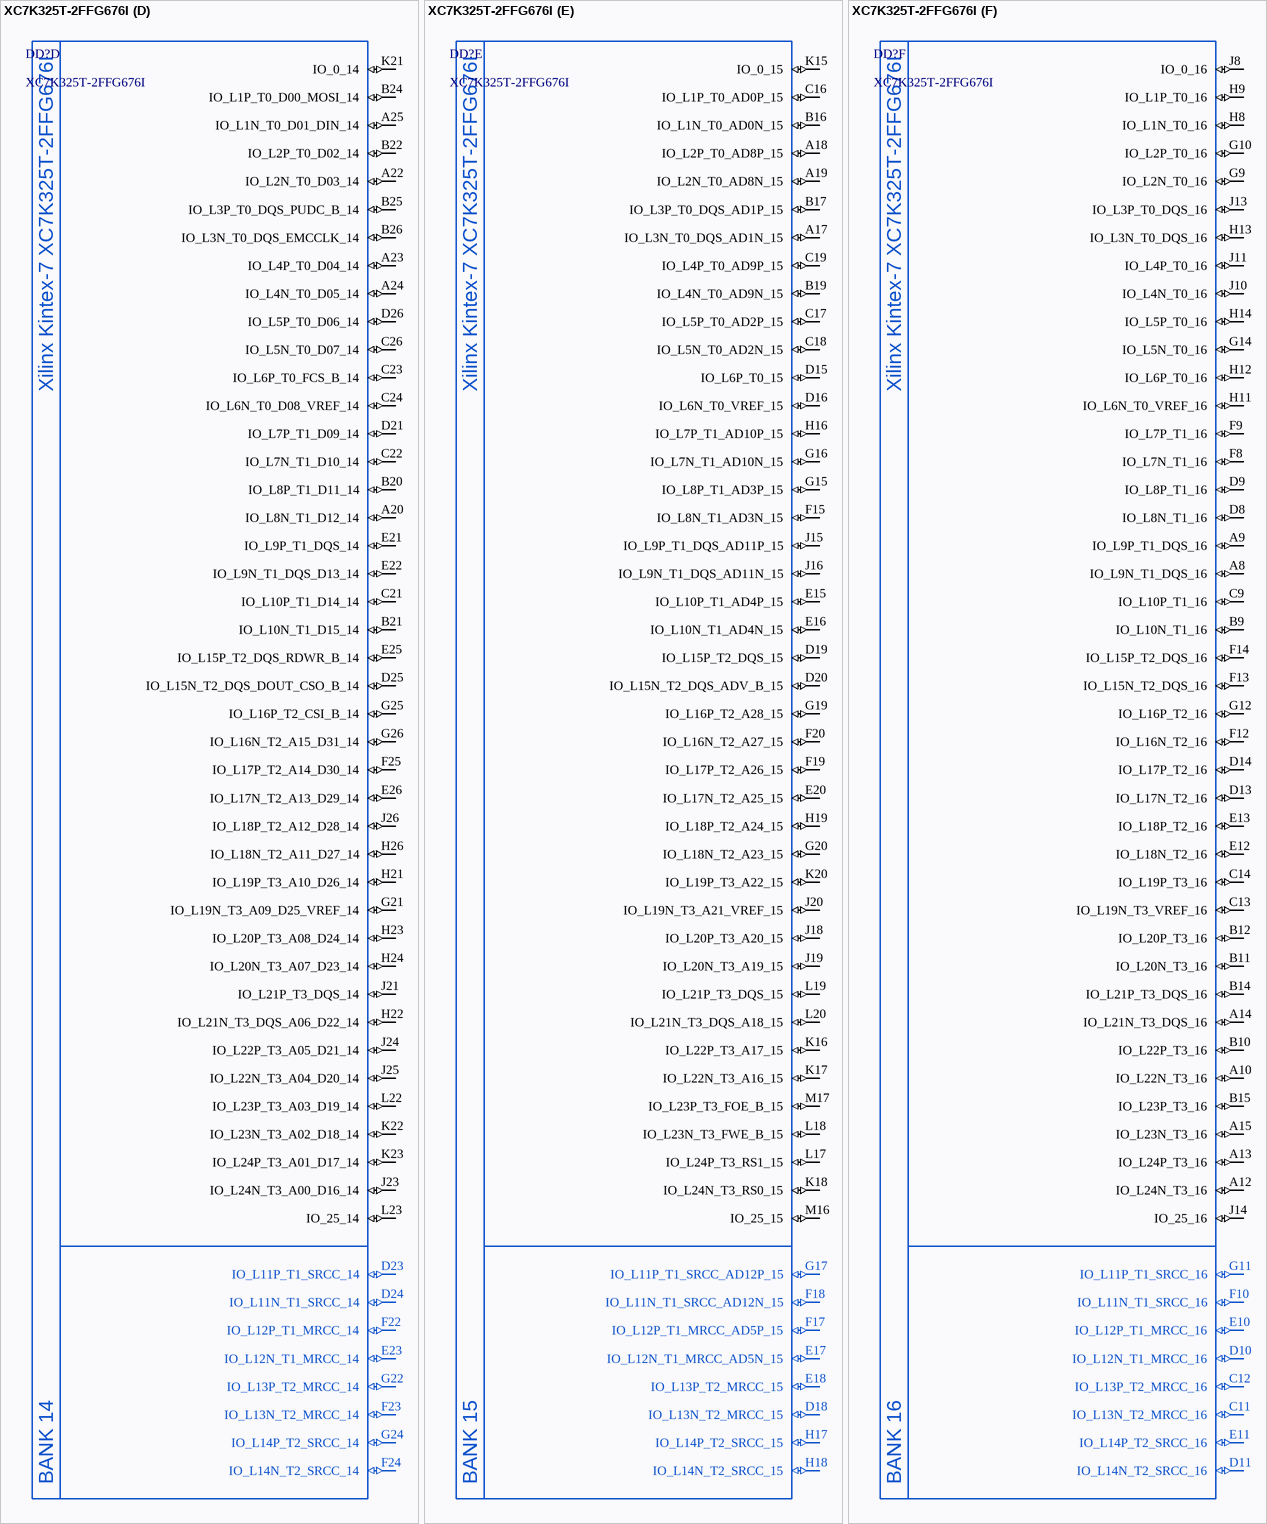
[diagram p25: symbol XC7K325T-2FFG676I]

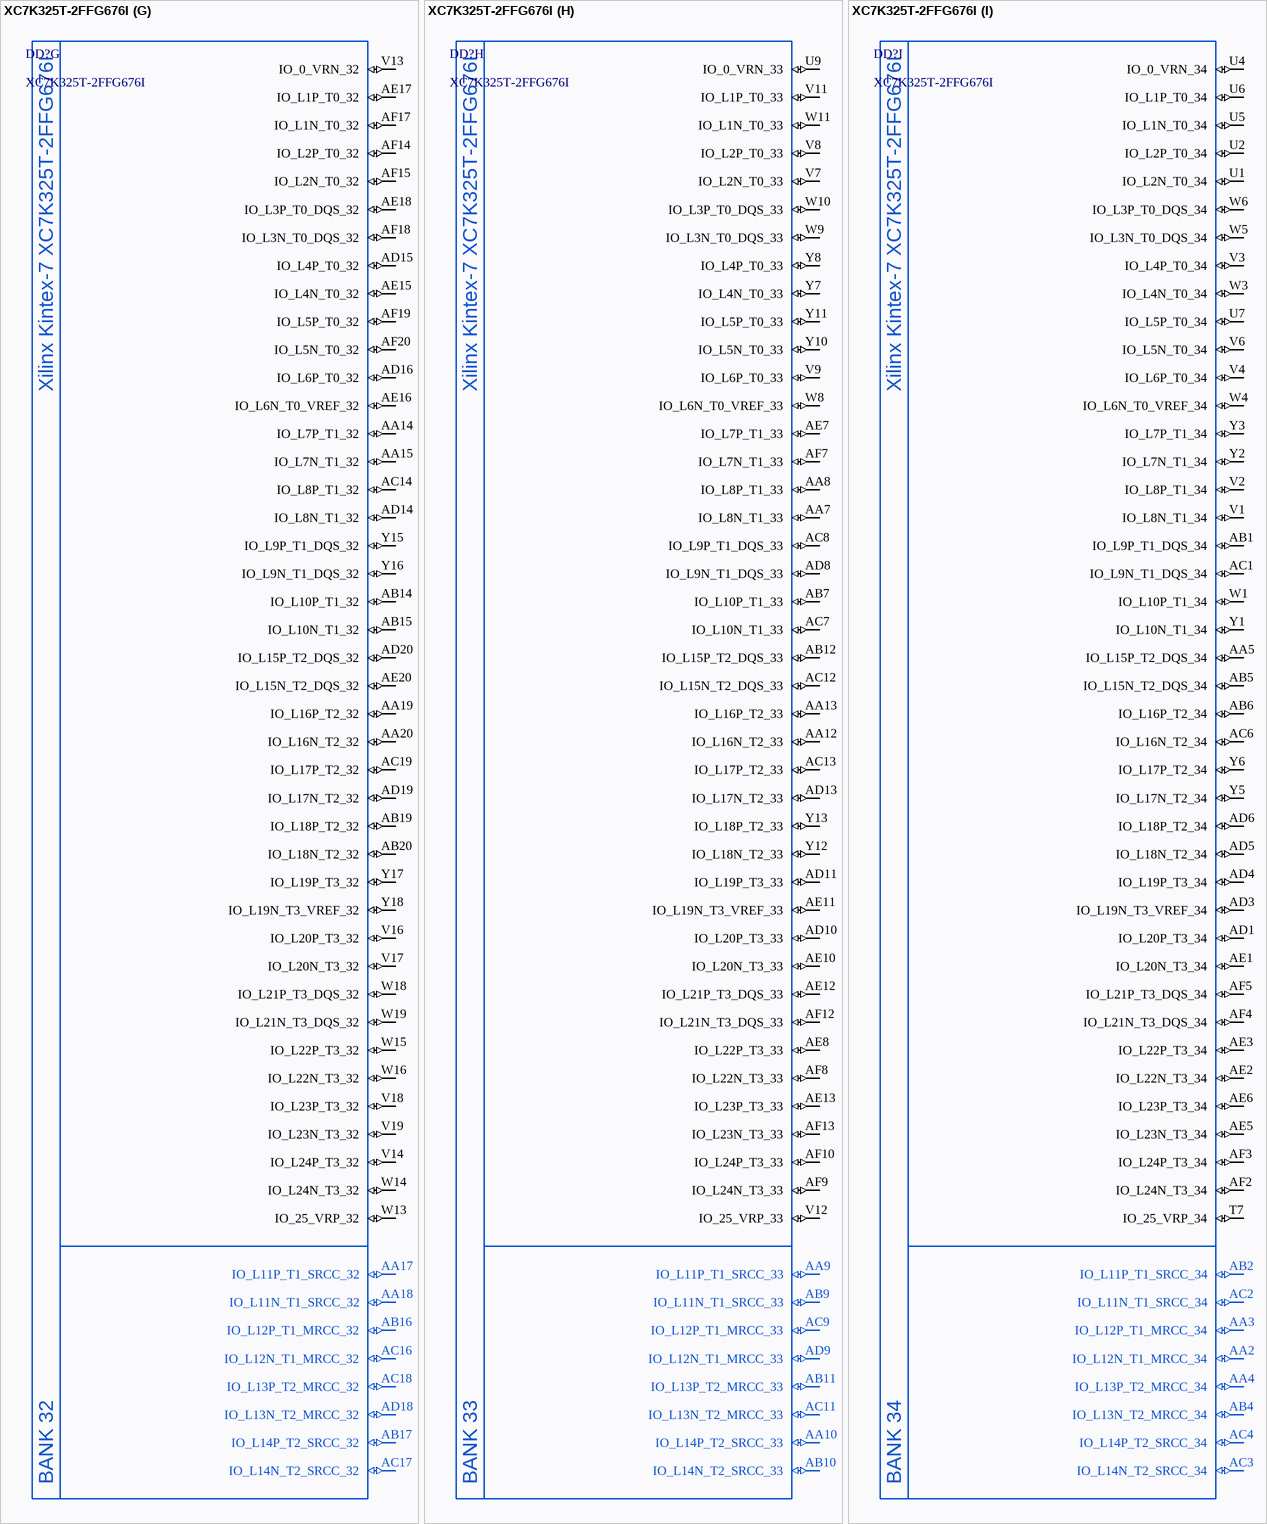
[diagram p26: symbol XC7K325T-2FFG676I]

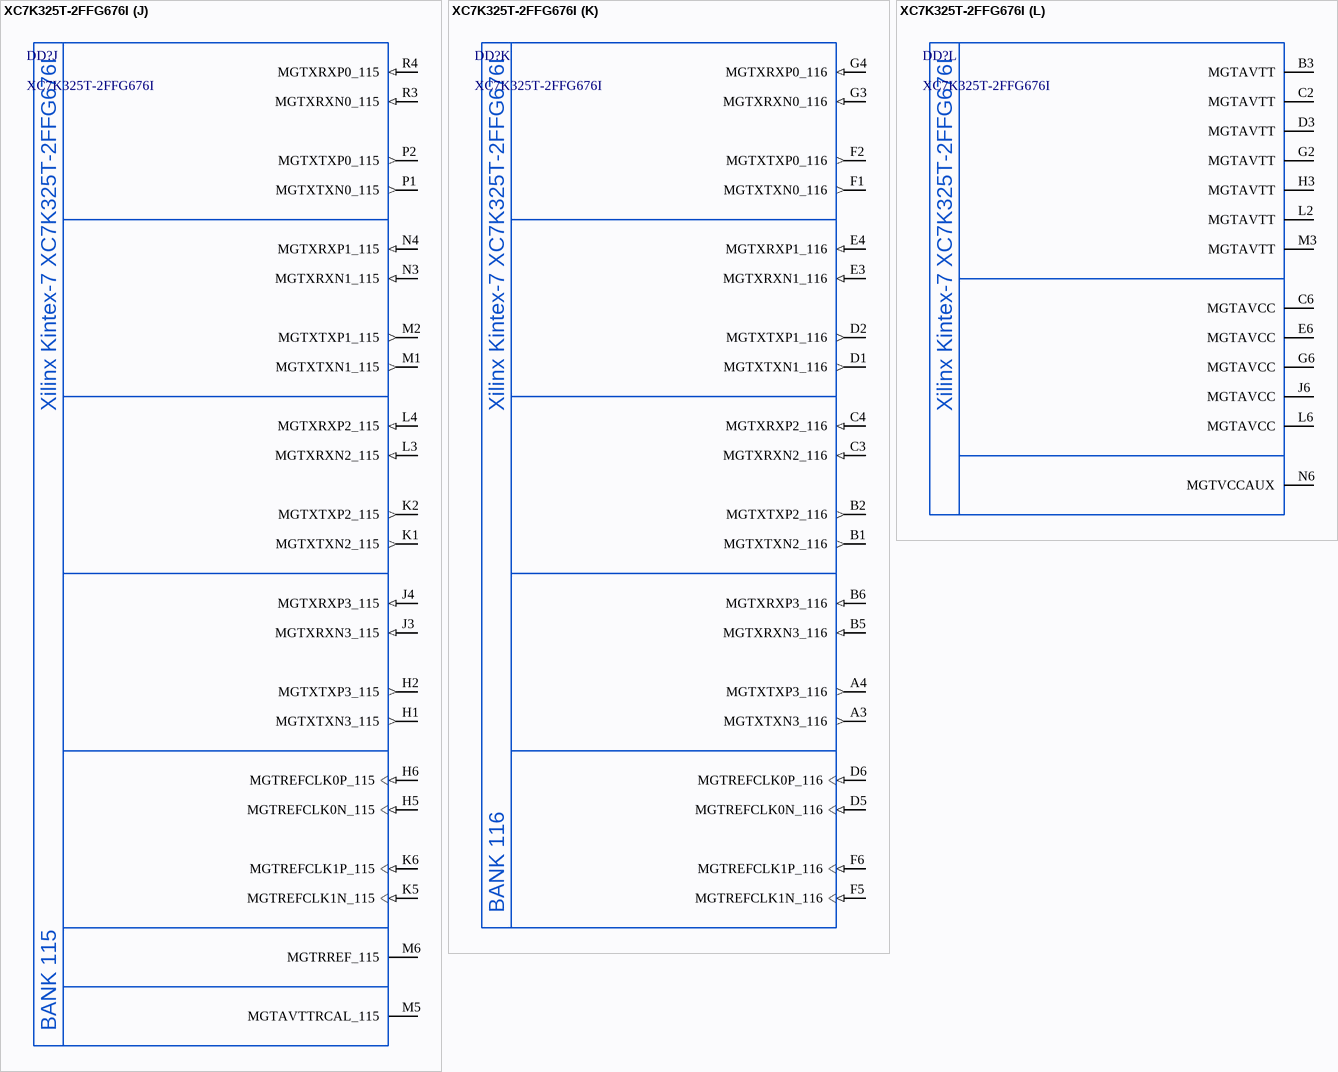
[diagram p27: symbol XC7K325T-2FFG676I]

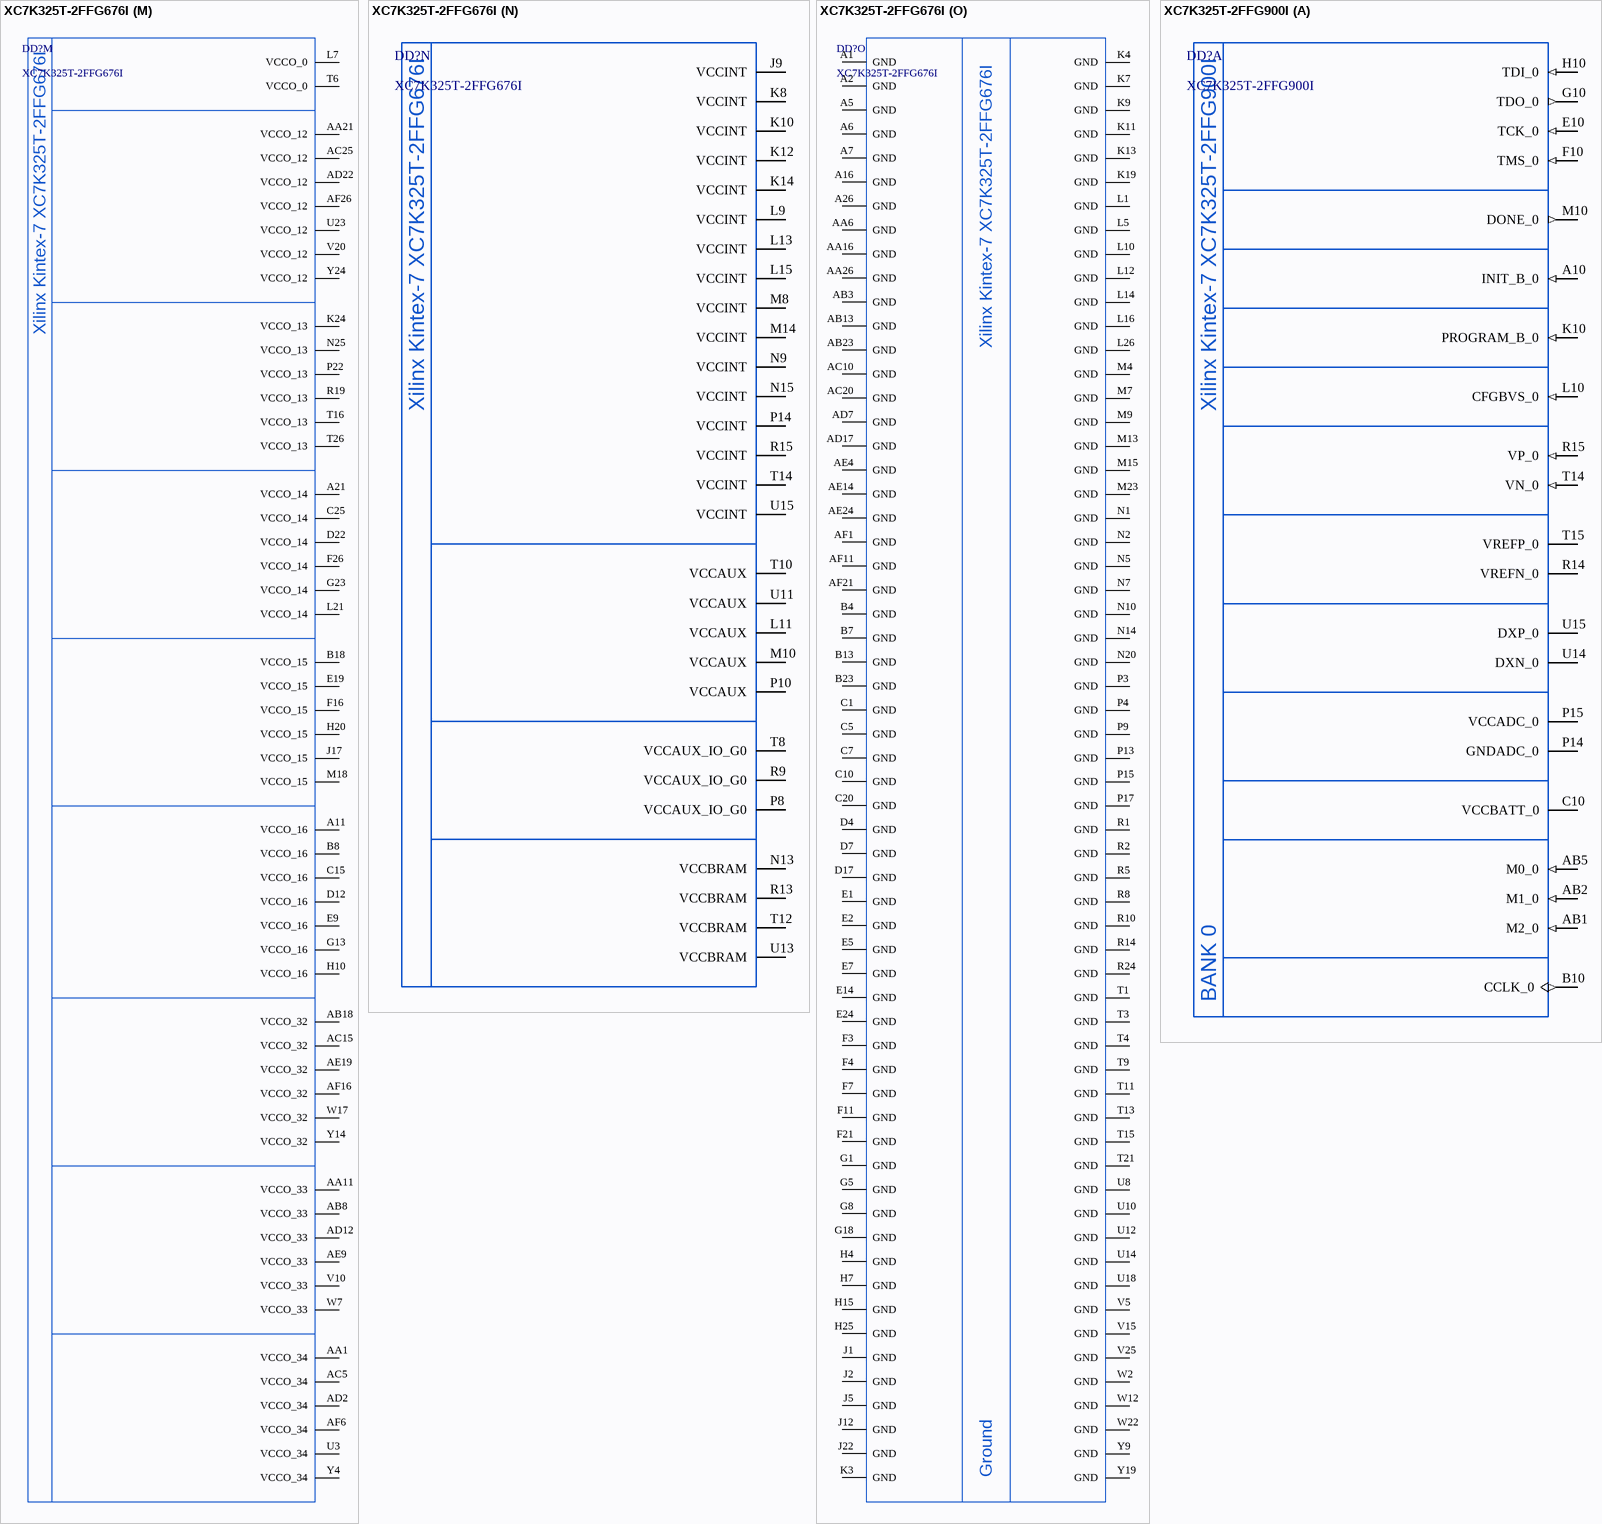
[diagram p28: symbols XC7K325T-2FFG676I to XC7K325T-2FFG900I]